# Altium schematic symbol library FPGA.SchLib: 10 symbols (part 1 of 2)
Pins are listed as number, name and electrical type; pins without a type are passive.

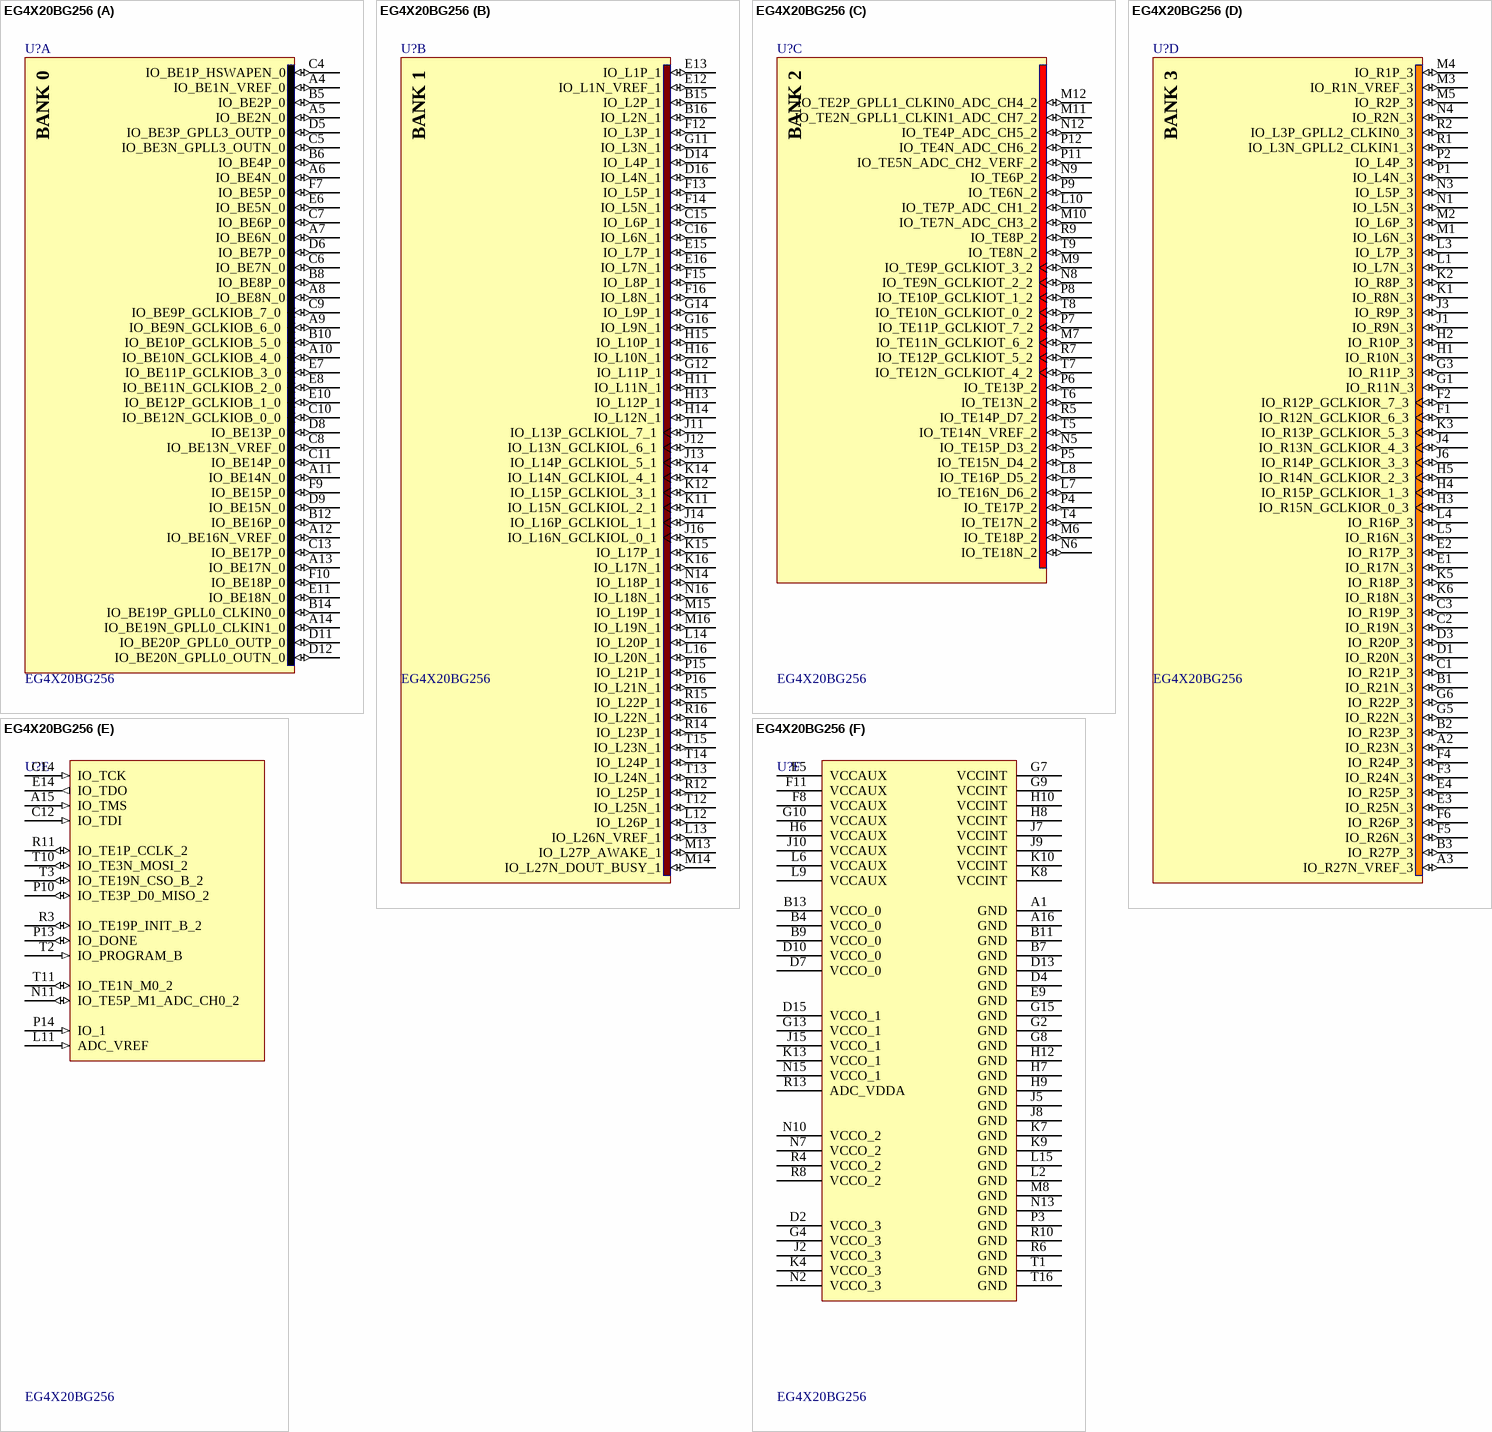
[diagram p0: symbol EG4X20BG256]

## EG4X20BG256
designator U?
Anlogic FPGA, 184 I/O Pins, 4 PLLs, 256-Pin FBGA
footprint BGA_17x17mm_P1.0mm_256P (BGA, 100-Leads, Body 17.00x17.00mmx1.40mm, Pitch 1.00mm)
part A pins: A4 IO_BE1N_VREF_0 (io), A5 IO_BE2N_0 (io), A6 IO_BE4N_0 (io), A7 IO_BE6N_0 (io), A8 IO_BE8N_0 (io), A9 IO_BE9N_GCLKIOB_6_0 (io), A10 IO_BE10N_GCLKIOB_4_0 (io), A11 IO_BE14N_0 (io), A12 IO_BE16N_VREF_0 (io), A13 IO_BE17N_0 (io), A14 IO_BE19N_GPLL0_CLKIN1_0 (io), B5 IO_BE2P_0 (io), B6 IO_BE4P_0 (io), B8 IO_BE8P_0 (io), B10 IO_BE10P_GCLKIOB_5_0 (io), B12 IO_BE16P_0 (io), B14 IO_BE19P_GPLL0_CLKIN0_0 (io), C4 IO_BE1P_HSWAPEN_0 (io), C5 IO_BE3N_GPLL3_OUTN_0 (io), C6 IO_BE7N_0 (io), C7 IO_BE6P_0 (io), C8 IO_BE13N_VREF_0 (io), C9 IO_BE9P_GCLKIOB_7_0 (io), C10 IO_BE12N_GCLKIOB_0_0 (io), C11 IO_BE14P_0 (io), C13 IO_BE17P_0 (io), D5 IO_BE3P_GPLL3_OUTP_0 (io), D6 IO_BE7P_0 (io), D8 IO_BE13P_0 (io), D9 IO_BE15N_0 (io), D11 IO_BE20P_GPLL0_OUTP_0 (io), D12 IO_BE20N_GPLL0_OUTN_0 (io), E6 IO_BE5N_0 (io), E7 IO_BE11P_GCLKIOB_3_0 (io), E8 IO_BE11N_GCLKIOB_2_0 (io), E10 IO_BE12P_GCLKIOB_1_0 (io), E11 IO_BE18N_0 (io), F7 IO_BE5P_0 (io), F9 IO_BE15P_0 (io), F10 IO_BE18P_0 (io)
part B pins: B15 IO_L2P_1 (io), B16 IO_L2N_1 (io), C15 IO_L6P_1 (io), C16 IO_L6N_1 (io), D14 IO_L4P_1 (io), D16 IO_L4N_1 (io), E12 IO_L1N_VREF_1 (io), E13 IO_L1P_1 (io), E15 IO_L7P_1 (io), E16 IO_L7N_1 (io), F12 IO_L3P_1 (io), F13 IO_L5P_1 (io), F14 IO_L5N_1 (io), F15 IO_L8P_1 (io), F16 IO_L8N_1 (io), G11 IO_L3N_1 (io), G12 IO_L11P_1 (io), G14 IO_L9P_1 (io), G16 IO_L9N_1 (io), H11 IO_L11N_1 (io), H13 IO_L12P_1 (io), H14 IO_L12N_1 (io), H15 IO_L10P_1 (io), H16 IO_L10N_1 (io), J11 IO_L13P_GCLKIOL_7_1 (io), J12 IO_L13N_GCLKIOL_6_1 (io), J13 IO_L14P_GCLKIOL_5_1 (io), J14 IO_L16P_GCLKIOL_1_1 (io), J16 IO_L16N_GCLKIOL_0_1 (io), K11 IO_L15N_GCLKIOL_2_1 (io), K12 IO_L15P_GCLKIOL_3_1 (io), K14 IO_L14N_GCLKIOL_4_1 (io), K15 IO_L17P_1 (io), K16 IO_L17N_1 (io), L12 IO_L26P_1 (io), L13 IO_L26N_VREF_1 (io), L14 IO_L20P_1 (io), L16 IO_L20N_1 (io), M13 IO_L27P_AWAKE_1 (io), M14 IO_L27N_DOUT_BUSY_1 (io), M15 IO_L19P_1 (io), M16 IO_L19N_1 (io), N14 IO_L18P_1 (io), N16 IO_L18N_1 (io), P15 IO_L21P_1 (io), P16 IO_L21N_1 (io), R12 IO_L25P_1 (io), R14 IO_L23P_1 (io), R15 IO_L22P_1 (io), R16 IO_L22N_1 (io), T12 IO_L25N_1 (io), T13 IO_L24N_1 (io), T14 IO_L24P_1 (io), T15 IO_L23N_1 (io)
part C pins: L7 IO_TE16N_D6_2 (io), L8 IO_TE16P_D5_2 (io), L10 IO_TE7P_ADC_CH1_2 (io), M6 IO_TE18P_2 (io), M7 IO_TE11N_GCLKIOT_6_2 (io), M9 IO_TE9P_GCLKIOT_3_2 (io), M10 IO_TE7N_ADC_CH3_2 (io), M11 IO_TE2N_GPLL1_CLKIN1_ADC_CH7_2 (io), M12 IO_TE2P_GPLL1_CLKIN0_ADC_CH4_2 (io), N5 IO_TE15P_D3_2 (io), N6 IO_TE18N_2 (io), N8 IO_TE9N_GCLKIOT_2_2 (io), N9 IO_TE6P_2 (io), N12 IO_TE4P_ADC_CH5_2 (io), P4 IO_TE17P_2 (io), P5 IO_TE15N_D4_2 (io), P6 IO_TE13P_2 (io), P7 IO_TE11P_GCLKIOT_7_2 (io), P8 IO_TE10P_GCLKIOT_1_2 (io), P9 IO_TE6N_2 (io), P11 IO_TE5N_ADC_CH2_VERF_2 (io), P12 IO_TE4N_ADC_CH6_2 (io), R5 IO_TE14P_D7_2 (io), R7 IO_TE12P_GCLKIOT_5_2 (io), R9 IO_TE8P_2 (io), T4 IO_TE17N_2 (io), T5 IO_TE14N_VREF_2 (io), T6 IO_TE13N_2 (io), T7 IO_TE12N_GCLKIOT_4_2 (io), T8 IO_TE10N_GCLKIOT_0_2 (io), T9 IO_TE8N_2 (io)
part D pins: A2 IO_R23N_3 (io), A3 IO_R27N_VREF_3 (io), B1 IO_R21N_3 (io), B2 IO_R23P_3 (io), B3 IO_R27P_3 (io), C1 IO_R21P_3 (io), C2 IO_R19N_3 (io), C3 IO_R19P_3 (io), D1 IO_R20N_3 (io), D3 IO_R20P_3 (io), E1 IO_R17N_3 (io), E2 IO_R17P_3 (io), E3 IO_R25N_3 (io), E4 IO_R25P_3 (io), F1 IO_R12N_GCLKIOR_6_3 (io), F2 IO_R12P_GCLKIOR_7_3 (io), F3 IO_R24N_3 (io), F4 IO_R24P_3 (io), F5 IO_R26N_3 (io), F6 IO_R26P_3 (io), G1 IO_R11N_3 (io), G3 IO_R11P_3 (io), G5 IO_R22N_3 (io), G6 IO_R22P_3 (io), H1 IO_R10N_3 (io), H2 IO_R10P_3 (io), H3 IO_R15N_GCLKIOR_0_3 (io), H4 IO_R15P_GCLKIOR_1_3 (io), H5 IO_R14N_GCLKIOR_2_3 (io), J1 IO_R9N_3 (io), J3 IO_R9P_3 (io), J4 IO_R13N_GCLKIOR_4_3 (io), J6 IO_R14P_GCLKIOR_3_3 (io), K1 IO_R8N_3 (io), K2 IO_R8P_3 (io), K3 IO_R13P_GCLKIOR_5_3 (io), K5 IO_R18P_3 (io), K6 IO_R18N_3 (io), L1 IO_L7N_3 (io), L3 IO_L7P_3 (io), L4 IO_R16P_3 (io), L5 IO_R16N_3 (io), M1 IO_L6N_3 (io), M2 IO_L6P_3 (io), M3 IO_R1N_VREF_3 (io), M4 IO_R1P_3 (io), M5 IO_R2P_3 (io), N1 IO_L5N_3 (io), N3 IO_L5P_3 (io), N4 IO_R2N_3 (io), P1 IO_L4N_3 (io), P2 IO_L4P_3 (io), R1 IO_L3N_GPLL2_CLKIN1_3 (io), R2 IO_L3P_GPLL2_CLKIN0_3 (io)
part E pins: A15 IO_TMS (in), C12 IO_TDI (in), C14 IO_TCK (in), E14 IO_TDO (out), L11 ADC_VREF (in), N11 IO_TE5P_M1_ADC_CH0_2 (io), P10 IO_TE3P_D0_MISO_2 (io), P13 IO_DONE (io), P14 IO_1 (in), R3 IO_TE19P_INIT_B_2 (io), R11 IO_TE1P_CCLK_2 (io), T2 IO_PROGRAM_B (in), T3 IO_TE19N_CSO_B_2 (io), T10 IO_TE3N_MOSI_2 (io), T11 IO_TE1N_M0_2 (io)
part F pins: A1 GND (power), A16 GND (power), B4 VCCO_0 (power), B7 GND (power), B9 VCCO_0 (power), B11 GND (power), B13 VCCO_0 (power), D2 VCCO_3 (power), D4 GND (power), D7 VCCO_0 (power), D10 VCCO_0 (power), D13 GND (power), D15 VCCO_1 (power), E5 VCCAUX (power), E9 GND (power), F8 VCCAUX (power), F11 VCCAUX (power), G2 GND (power), G4 VCCO_3 (power), G7 VCCINT (power), G8 GND (power), G9 VCCINT (power), G10 VCCAUX (power), G13 VCCO_1 (power), G15 GND (power), H6 VCCAUX (power), H7 GND (power), H8 VCCINT (power), H9 GND (power), H10 VCCINT (power), H12 GND (power), J2 VCCO_3 (power), J5 GND (power), J7 VCCINT (power), J8 GND (power), J9 VCCINT (power), J10 VCCAUX (power), J15 VCCO_1 (power), K4 VCCO_3 (power), K7 GND (power), K8 VCCINT (power), K9 GND (power), K10 VCCINT (power), K13 VCCO_1 (power), L2 GND (power), L6 VCCAUX (power), L9 VCCAUX (power), L15 GND (power), M8 GND (power), N2 VCCO_3 (power), N7 VCCO_2 (power), N10 VCCO_2 (power), N13 GND (power), N15 VCCO_1 (power), P3 GND (power), R4 VCCO_2 (power), R6 GND (power), R8 VCCO_2 (power), R10 GND (power), R13 ADC_VDDA (power), T1 GND (power), T16 GND (power)
part A text: BANK 0
part B text: BANK 1
part C text: BANK 2
part D text: BANK 3

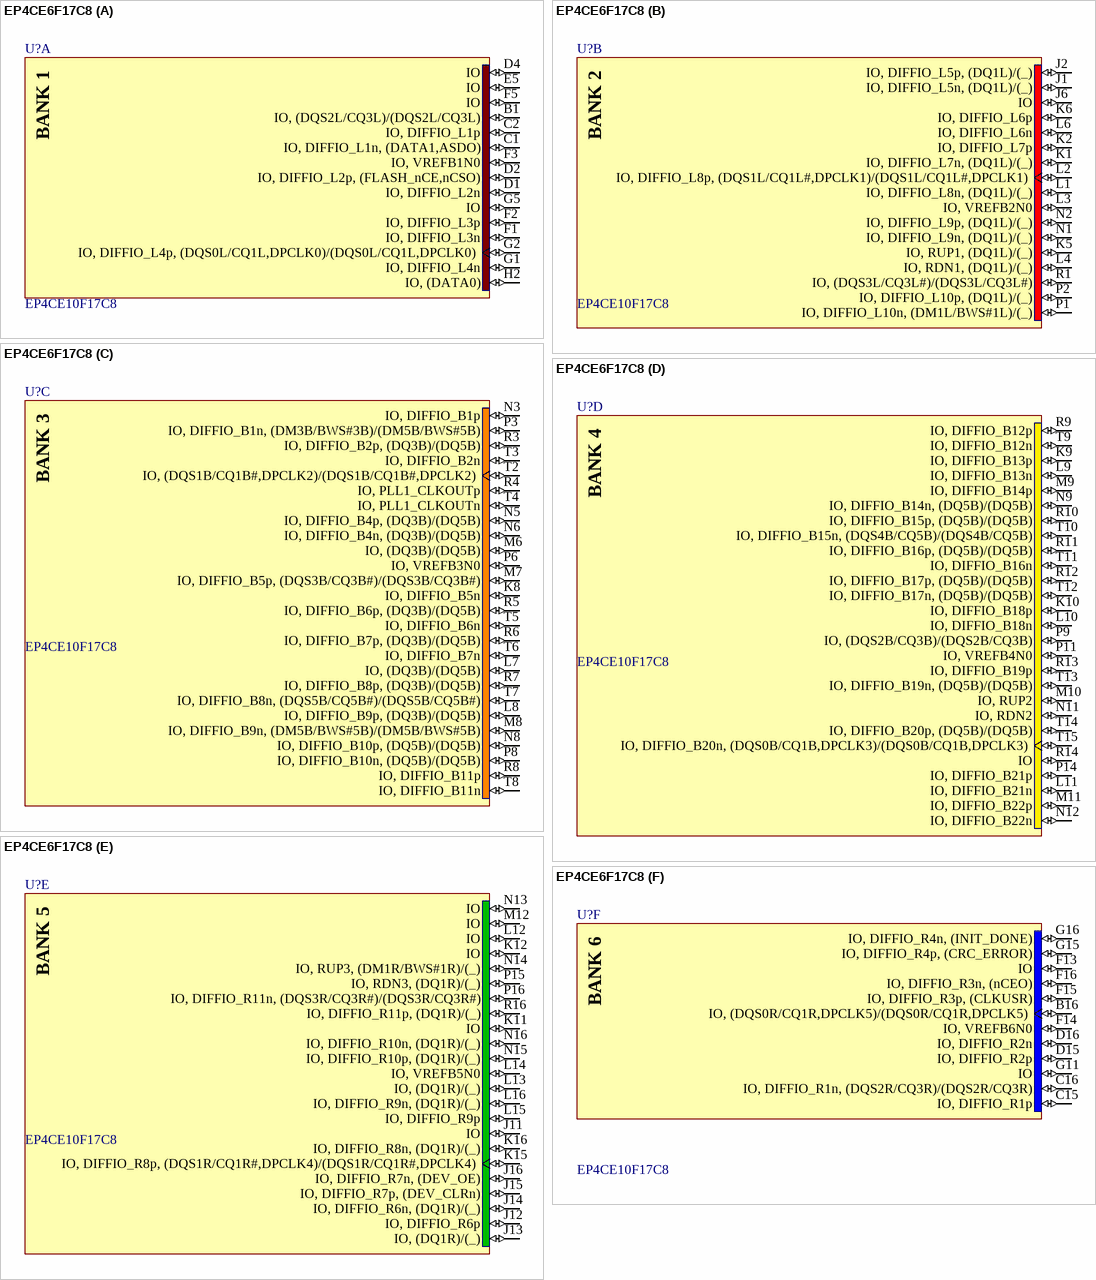
[diagram p1: symbol EP4CE6F17C8]

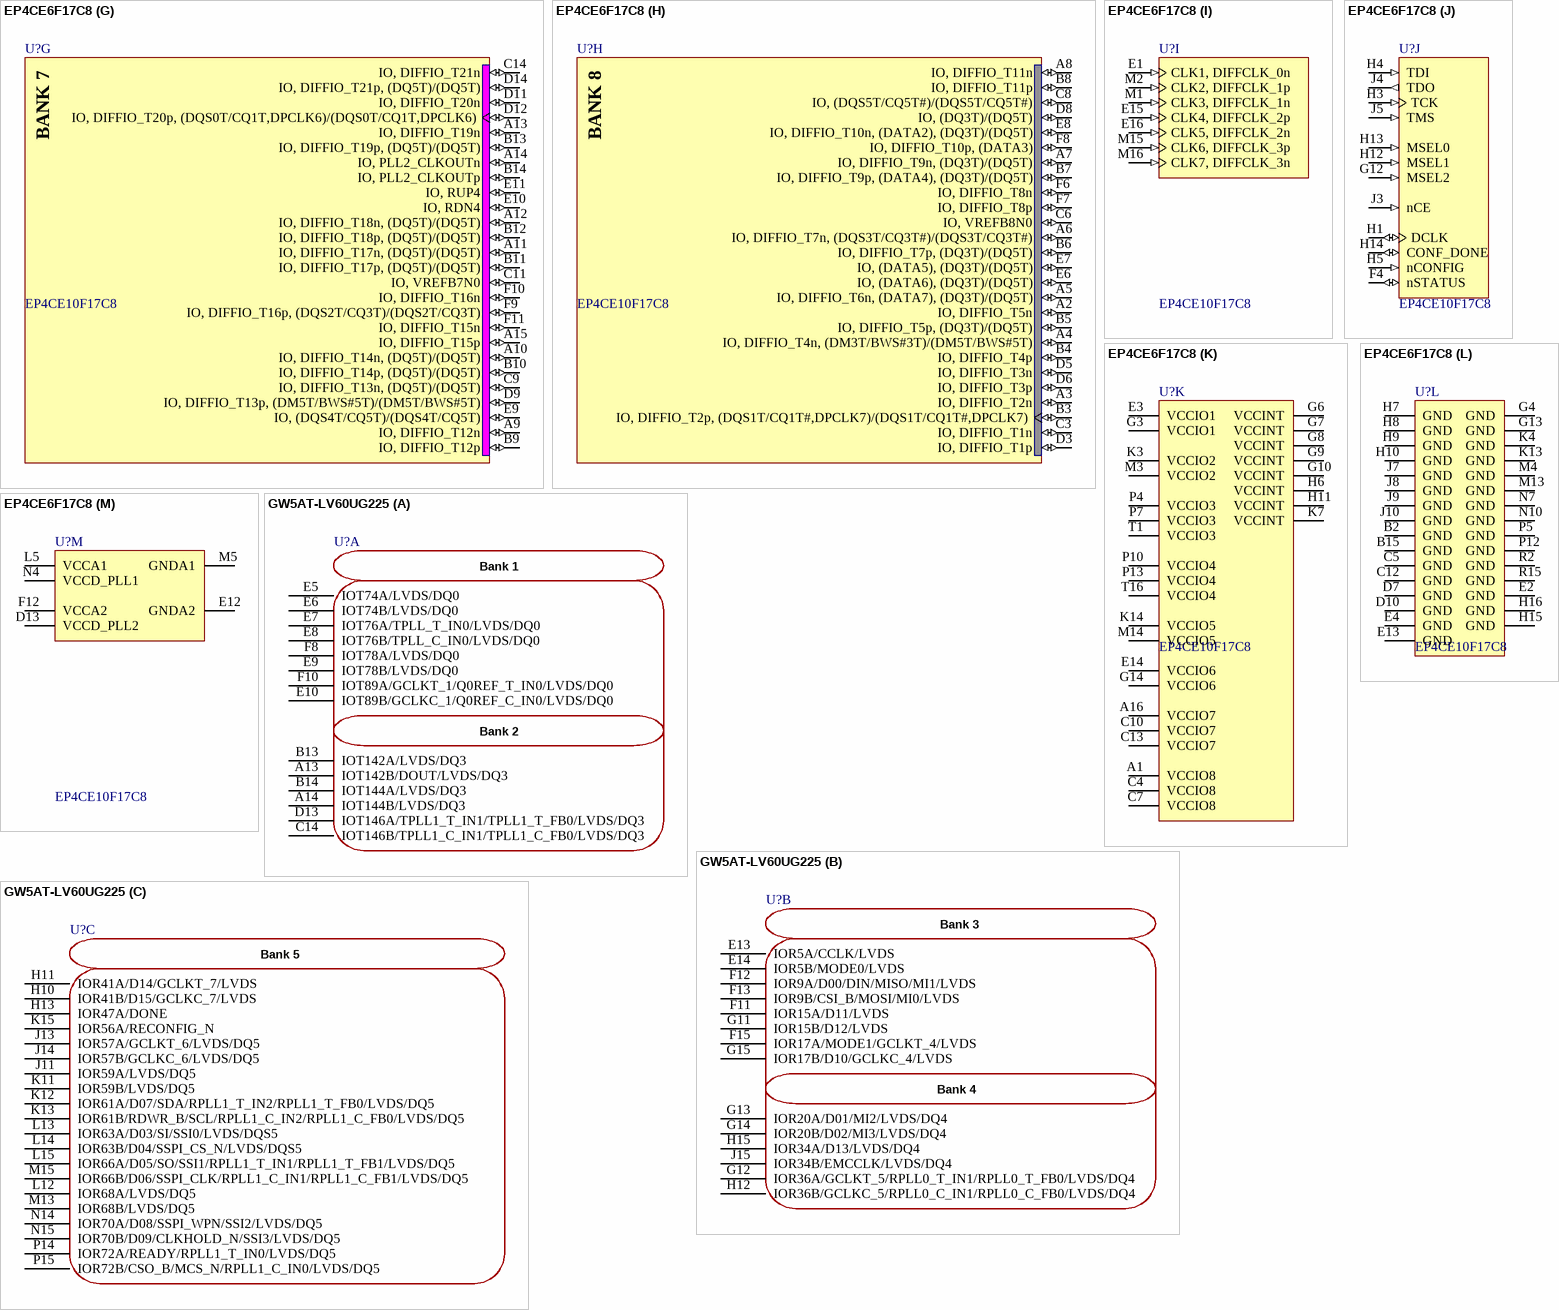
[diagram p2: symbols EP4CE6F17C8 to GW5AT-LV60UG225]

## EP4CE6F17C8
designator U?, comment EP4CE10F17C8
Cyclone IV Family FPGA, 2V Core, 179 I/O Pins, 2 PLLs, 256-Pin FBGA, Speed Grade 8, Commercial Grade; Published: 3-May-2010; DatasheetVersion: ver1.2, Mar-2010; PackageVersion: ver16.0, Dec-2009; PackageReference: FBGA256; Publisher: Altium Limited; PackageDescription: 256-Ball FineLine Ball Grid Array (FBGA256) - Option 1 - Wire Bond; Supplier 1: Digi-Key; Supplier Part Number 1: EP4CE6F17C8-ND; Code_JEDEC: MS-034-AAF-1; Code_IPC: BGA100P16X16-256; ComponentLink1Description: Manufacturer Link; ComponentLink1URL: http://www.altera.com/; ComponentLink2Description: Handbook; ComponentLink2URL: http://www.altera.com/literature/hb/cyclone-iv/cyclone4-handbook.pdf; ComponentLink3Description: Pinout Specification; ComponentLink3URL: http://www.altera.com/literature/lit-dp.jsp?category=cyc%204&showspreadsheet=y; ComponentLink4Description: Packaging Specification; ComponentLink4URL: http://www.altera.com/literature/ds/dspkg.pdf
footprint FBGA256
part A pins: B1 IO, (DQS2L/CQ3L)/(DQS2L/CQ3L) (io), C1 IO, DIFFIO_L1n, (DATA1,ASDO) (io), C2 IO, DIFFIO_L1p (io), D1 IO, DIFFIO_L2n (io), D2 IO, DIFFIO_L2p, (FLASH_nCE,nCSO) (io), D4 IO (io), E5 IO (io), F1 IO, DIFFIO_L3n (io), F2 IO, DIFFIO_L3p (io), F3 IO, VREFB1N0 (io), F5 IO (io), G1 IO, DIFFIO_L4n (io), G2 IO, DIFFIO_L4p, (DQS0L/CQ1L,DPCLK0)/(DQS0L/CQ1L,DPCLK0) (io), G5 IO (io), H2 IO, (DATA0) (io)
part B pins: J1 IO, DIFFIO_L5n, (DQ1L)/(_) (io), J2 IO, DIFFIO_L5p, (DQ1L)/(_) (io), J6 IO (io), K1 IO, DIFFIO_L7n, (DQ1L)/(_) (io), K2 IO, DIFFIO_L7p (io), K5 IO, RUP1, (DQ1L)/(_) (io), K6 IO, DIFFIO_L6p (io), L1 IO, DIFFIO_L8n, (DQ1L)/(_) (io), L2 IO, DIFFIO_L8p, (DQS1L/CQ1L#,DPCLK1)/(DQS1L/CQ1L#,DPCLK1) (io), L3 IO, VREFB2N0 (io), L4 IO, RDN1, (DQ1L)/(_) (io), L6 IO, DIFFIO_L6n (io), N1 IO, DIFFIO_L9n, (DQ1L)/(_) (io), N2 IO, DIFFIO_L9p, (DQ1L)/(_) (io), P1 IO, DIFFIO_L10n, (DM1L/BWS#1L)/(_) (io), P2 IO, DIFFIO_L10p, (DQ1L)/(_) (io), R1 IO, (DQS3L/CQ3L#)/(DQS3L/CQ3L#) (io)
part C pins: K8 IO, DIFFIO_B5n (io), L7 IO, (DQ3B)/(DQ5B) (io), L8 IO, DIFFIO_B9p, (DQ3B)/(DQ5B) (io), M6 IO, (DQ3B)/(DQ5B) (io), M7 IO, DIFFIO_B5p, (DQS3B/CQ3B#)/(DQS3B/CQ3B#) (io), M8 IO, DIFFIO_B9n, (DM5B/BWS#5B)/(DM5B/BWS#5B) (io), N3 IO, DIFFIO_B1p (io), N5 IO, DIFFIO_B4p, (DQ3B)/(DQ5B) (io), N6 IO, DIFFIO_B4n, (DQ3B)/(DQ5B) (io), N8 IO, DIFFIO_B10p, (DQ5B)/(DQ5B) (io), P3 IO, DIFFIO_B1n, (DM3B/BWS#3B)/(DM5B/BWS#5B) (io), P6 IO, VREFB3N0 (io), P8 IO, DIFFIO_B10n, (DQ5B)/(DQ5B) (io), R3 IO, DIFFIO_B2p, (DQ3B)/(DQ5B) (io), R4 IO, PLL1_CLKOUTp (io), R5 IO, DIFFIO_B6p, (DQ3B)/(DQ5B) (io), R6 IO, DIFFIO_B7p, (DQ3B)/(DQ5B) (io), R7 IO, DIFFIO_B8p, (DQ3B)/(DQ5B) (io), R8 IO, DIFFIO_B11p (io), T2 IO, (DQS1B/CQ1B#,DPCLK2)/(DQS1B/CQ1B#,DPCLK2) (io), T3 IO, DIFFIO_B2n (io), T4 IO, PLL1_CLKOUTn (io), T5 IO, DIFFIO_B6n (io), T6 IO, DIFFIO_B7n (io), T7 IO, DIFFIO_B8n, (DQS5B/CQ5B#)/(DQS5B/CQ5B#) (io), T8 IO, DIFFIO_B11n (io)
part D pins: K9 IO, DIFFIO_B13p (io), K10 IO, DIFFIO_B18p (io), L9 IO, DIFFIO_B13n (io), L10 IO, DIFFIO_B18n (io), L11 IO, DIFFIO_B21n (io), M9 IO, DIFFIO_B14p (io), M10 IO, RUP2 (io), M11 IO, DIFFIO_B22p (io), N9 IO, DIFFIO_B14n, (DQ5B)/(DQ5B) (io), N11 IO, RDN2 (io), N12 IO, DIFFIO_B22n (io), P9 IO, (DQS2B/CQ3B)/(DQS2B/CQ3B) (io), P11 IO, VREFB4N0 (io), P14 IO, DIFFIO_B21p (io), R9 IO, DIFFIO_B12p (io), R10 IO, DIFFIO_B15p, (DQ5B)/(DQ5B) (io), R11 IO, DIFFIO_B16p, (DQ5B)/(DQ5B) (io), R12 IO, DIFFIO_B17p, (DQ5B)/(DQ5B) (io), R13 IO, DIFFIO_B19p (io), R14 IO (io), T9 IO, DIFFIO_B12n (io), T10 IO, DIFFIO_B15n, (DQS4B/CQ5B)/(DQS4B/CQ5B) (io), T11 IO, DIFFIO_B16n (io), T12 IO, DIFFIO_B17n, (DQ5B)/(DQ5B) (io), T13 IO, DIFFIO_B19n, (DQ5B)/(DQ5B) (io), T14 IO, DIFFIO_B20p, (DQ5B)/(DQ5B) (io), T15 IO, DIFFIO_B20n, (DQS0B/CQ1B,DPCLK3)/(DQS0B/CQ1B,DPCLK3) (io)
part E pins: J11 IO (io), J12 IO, DIFFIO_R6p (io), J13 IO, (DQ1R)/(_) (io), J14 IO, DIFFIO_R6n, (DQ1R)/(_) (io), J15 IO, DIFFIO_R7p, (DEV_CLRn) (io), J16 IO, DIFFIO_R7n, (DEV_OE) (io), K11 IO (io), K12 IO (io), K15 IO, DIFFIO_R8p, (DQS1R/CQ1R#,DPCLK4)/(DQS1R/CQ1R#,DPCLK4) (io), K16 IO, DIFFIO_R8n, (DQ1R)/(_) (io), L12 IO (io), L13 IO, (DQ1R)/(_) (io), L14 IO, VREFB5N0 (io), L15 IO, DIFFIO_R9p (io), L16 IO, DIFFIO_R9n, (DQ1R)/(_) (io), M12 IO (io), N13 IO (io), N14 IO, RUP3, (DM1R/BWS#1R)/(_) (io), N15 IO, DIFFIO_R10p, (DQ1R)/(_) (io), N16 IO, DIFFIO_R10n, (DQ1R)/(_) (io), P15 IO, RDN3, (DQ1R)/(_) (io), P16 IO, DIFFIO_R11n, (DQS3R/CQ3R#)/(DQS3R/CQ3R#) (io), R16 IO, DIFFIO_R11p, (DQ1R)/(_) (io)
part F pins: B16 IO, (DQS0R/CQ1R,DPCLK5)/(DQS0R/CQ1R,DPCLK5) (io), C15 IO, DIFFIO_R1p (io), C16 IO, DIFFIO_R1n, (DQS2R/CQ3R)/(DQS2R/CQ3R) (io), D15 IO, DIFFIO_R2p (io), D16 IO, DIFFIO_R2n (io), F13 IO (io), F14 IO, VREFB6N0 (io), F15 IO, DIFFIO_R3p, (CLKUSR) (io), F16 IO, DIFFIO_R3n, (nCEO) (io), G11 IO (io), G15 IO, DIFFIO_R4p, (CRC_ERROR) (io), G16 IO, DIFFIO_R4n, (INIT_DONE) (io)
part G pins: A9 IO, DIFFIO_T12n (io), A10 IO, DIFFIO_T14n, (DQ5T)/(DQ5T) (io), A11 IO, DIFFIO_T17n, (DQ5T)/(DQ5T) (io), A12 IO, DIFFIO_T18n, (DQ5T)/(DQ5T) (io), A13 IO, DIFFIO_T19n (io), A14 IO, PLL2_CLKOUTn (io), A15 IO, DIFFIO_T15p (io), B9 IO, DIFFIO_T12p (io), B10 IO, DIFFIO_T14p, (DQ5T)/(DQ5T) (io), B11 IO, DIFFIO_T17p, (DQ5T)/(DQ5T) (io), B12 IO, DIFFIO_T18p, (DQ5T)/(DQ5T) (io), B13 IO, DIFFIO_T19p, (DQ5T)/(DQ5T) (io), B14 IO, PLL2_CLKOUTp (io), C9 IO, DIFFIO_T13n, (DQ5T)/(DQ5T) (io), C11 IO, VREFB7N0 (io), C14 IO, DIFFIO_T21n (io), D9 IO, DIFFIO_T13p, (DM5T/BWS#5T)/(DM5T/BWS#5T) (io), D11 IO, DIFFIO_T20n (io), D12 IO, DIFFIO_T20p, (DQS0T/CQ1T,DPCLK6)/(DQS0T/CQ1T,DPCLK6) (io), D14 IO, DIFFIO_T21p, (DQ5T)/(DQ5T) (io), E9 IO, (DQS4T/CQ5T)/(DQS4T/CQ5T) (io), E10 IO, RDN4 (io), E11 IO, RUP4 (io), F9 IO, DIFFIO_T16p, (DQS2T/CQ3T)/(DQS2T/CQ3T) (io), F10 IO, DIFFIO_T16n (io), F11 IO, DIFFIO_T15n (io)
part H pins: A2 IO, DIFFIO_T5n (io), A3 IO, DIFFIO_T2n (io), A4 IO, DIFFIO_T4n, (DM3T/BWS#3T)/(DM5T/BWS#5T) (io), A5 IO, DIFFIO_T6n, (DATA7), (DQ3T)/(DQ5T) (io), A6 IO, DIFFIO_T7n, (DQS3T/CQ3T#)/(DQS3T/CQ3T#) (io), A7 IO, DIFFIO_T9n, (DQ3T)/(DQ5T) (io), A8 IO, DIFFIO_T11n (io), B3 IO, DIFFIO_T2p, (DQS1T/CQ1T#,DPCLK7)/(DQS1T/CQ1T#,DPCLK7) (io), B4 IO, DIFFIO_T4p (io), B5 IO, DIFFIO_T5p, (DQ3T)/(DQ5T) (io), B6 IO, DIFFIO_T7p, (DQ3T)/(DQ5T) (io), B7 IO, DIFFIO_T9p, (DATA4), (DQ3T)/(DQ5T) (io), B8 IO, DIFFIO_T11p (io), C3 IO, DIFFIO_T1n (io), C6 IO, VREFB8N0 (io), C8 IO, (DQS5T/CQ5T#)/(DQS5T/CQ5T#) (io), D3 IO, DIFFIO_T1p (io), D5 IO, DIFFIO_T3n (io), D6 IO, DIFFIO_T3p (io), D8 IO, (DQ3T)/(DQ5T) (io), E6 IO, (DATA6), (DQ3T)/(DQ5T) (io), E7 IO, (DATA5), (DQ3T)/(DQ5T) (io), E8 IO, DIFFIO_T10n, (DATA2), (DQ3T)/(DQ5T) (io), F6 IO, DIFFIO_T8n (io), F7 IO, DIFFIO_T8p (io), F8 IO, DIFFIO_T10p, (DATA3) (io)
part I pins: E1 CLK1, DIFFCLK_0n (in), E15 CLK4, DIFFCLK_2p (in), E16 CLK5, DIFFCLK_2n (in), M1 CLK3, DIFFCLK_1n (in), M2 CLK2, DIFFCLK_1p (in), M15 CLK6, DIFFCLK_3p (in), M16 CLK7, DIFFCLK_3n (in)
part J pins: F4 nSTATUS (io), G12 MSEL2 (in), H1 DCLK (io), H3 TCK (in), H4 TDI (in), H5 nCONFIG (in), H12 MSEL1 (in), H13 MSEL0 (in), H14 CONF_DONE (io), J3 nCE (in), J4 TDO (out), J5 TMS (in)
part K pins: A1 VCCIO8 (power), A16 VCCIO7 (power), C4 VCCIO8 (power), C7 VCCIO8 (power), C10 VCCIO7 (power), C13 VCCIO7 (power), E3 VCCIO1 (power), E14 VCCIO6 (power), G3 VCCIO1 (power), G6 VCCINT (power), G7 VCCINT (power), G8 VCCINT (power), G9 VCCINT (power), G10 VCCINT (power), G14 VCCIO6 (power), H6 VCCINT (power), H11 VCCINT (power), K3 VCCIO2 (power), K7 VCCINT (power), K14 VCCIO5 (power), M3 VCCIO2 (power), M14 VCCIO5 (power), P4 VCCIO3 (power), P7 VCCIO3 (power), P10 VCCIO4 (power), P13 VCCIO4 (power), T1 VCCIO3 (power), T16 VCCIO4 (power)
part L pins: B2 GND (power), B15 GND (power), C5 GND (power), C12 GND (power), D7 GND (power), D10 GND (power), E2 GND (power), E4 GND (power), E13 GND (power), G4 GND (power), G13 GND (power), H7 GND (power), H8 GND (power), H9 GND (power), H10 GND (power), H15 GND (power), H16 GND (power), J7 GND (power), J8 GND (power), J9 GND (power), J10 GND (power), K4 GND (power), K13 GND (power), M4 GND (power), M13 GND (power), N7 GND (power), N10 GND (power), P5 GND (power), P12 GND (power), R2 GND (power), R15 GND (power)
part M pins: D13 VCCD_PLL2 (power), E12 GNDA2 (power), F12 VCCA2 (power), L5 VCCA1 (power), M5 GNDA1 (power), N4 VCCD_PLL1 (power)
part A text: BANK 1
part B text: BANK 2
part C text: BANK 3
part D text: BANK 4
part E text: BANK 5
part F text: BANK 6
part G text: BANK 7
part H text: BANK 8

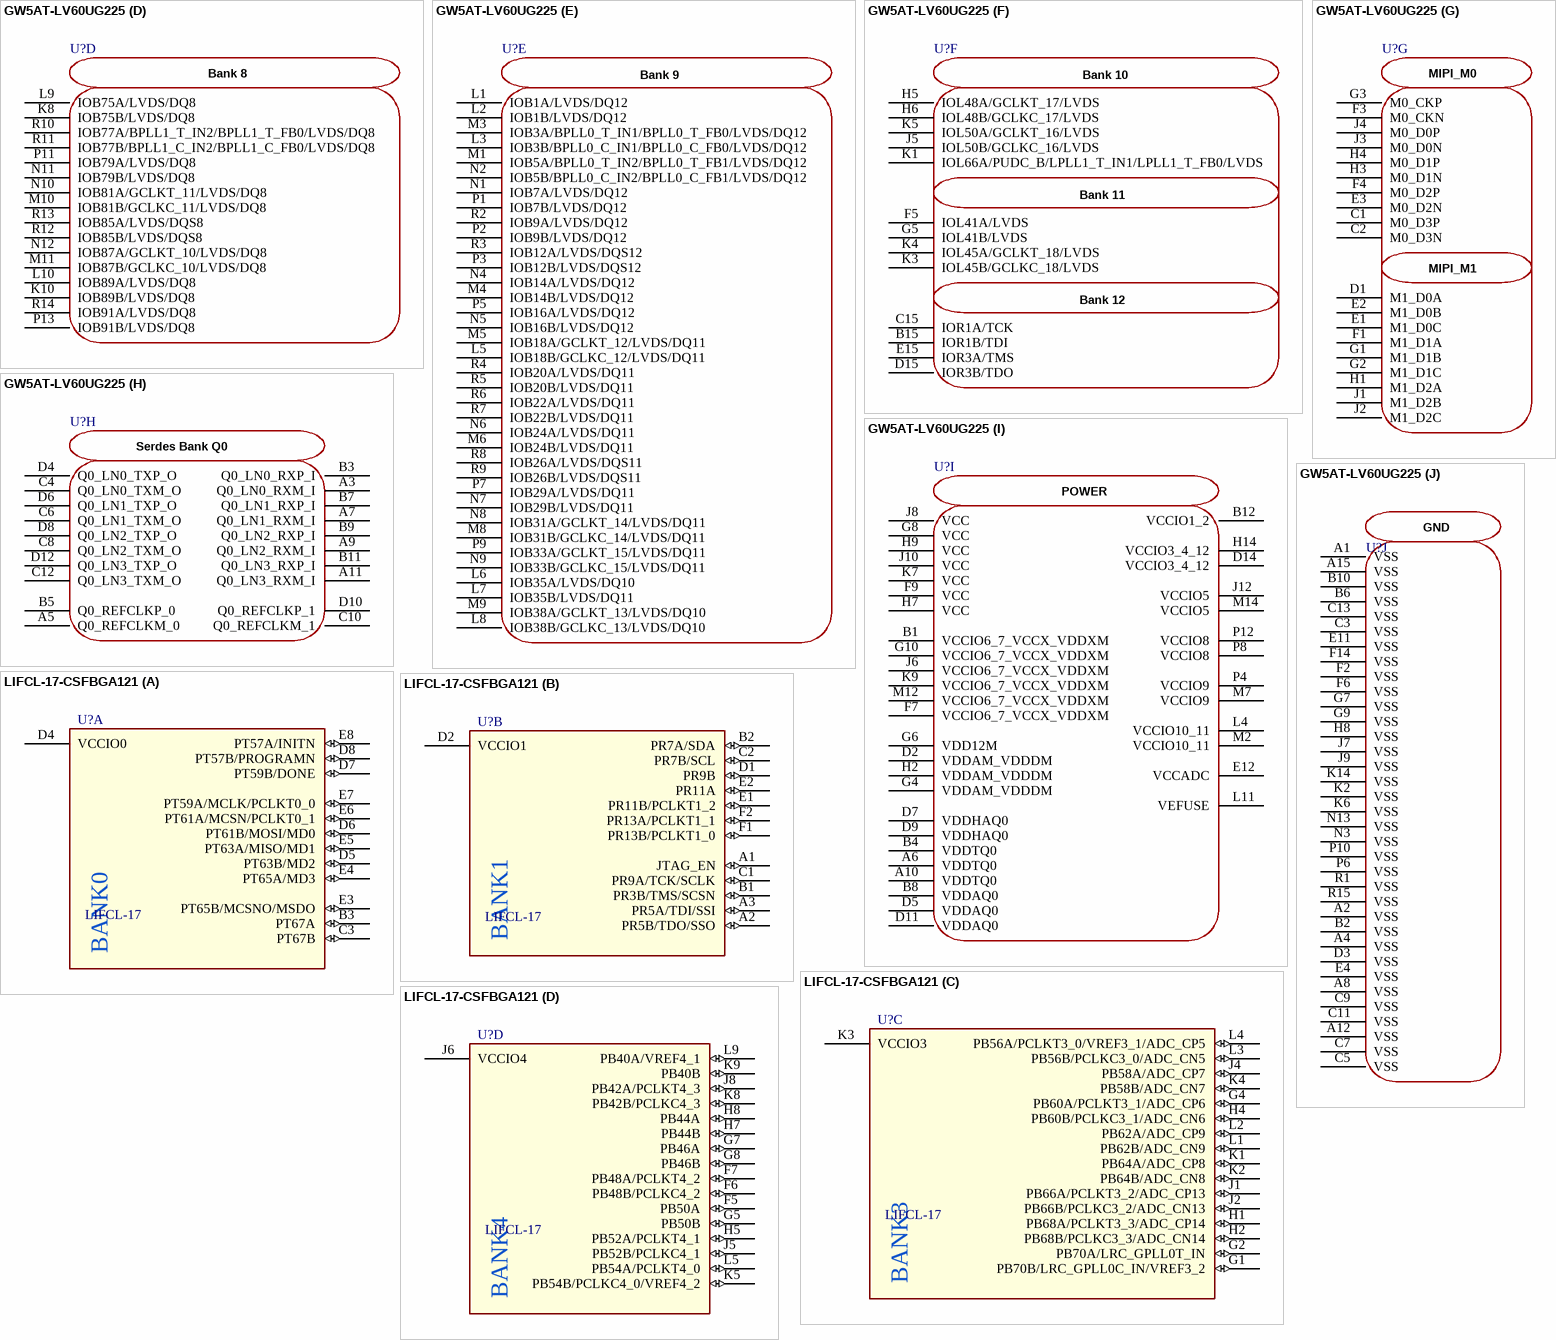
[diagram p3: symbols GW5AT-LV60UG225 to LIFCL-17-CSFBGA121]

## GW5AT-LV60UG225
designator U?  (value not drawn)
footprint UG225_13x13mm (BGA, 225-Leads, Body 13.00x13.00mmx1.36mm, Pitch 0.80mm)
part A pins: A13 IOT142B/DOUT/LVDS/DQ3, A14 IOT144B/LVDS/DQ3, B13 IOT142A/LVDS/DQ3, B14 IOT144A/LVDS/DQ3, C14 IOT146B/TPLL1_C_IN1/TPLL1_C_FB0/LVDS/DQ3, D13 IOT146A/TPLL1_T_IN1/TPLL1_T_FB0/LVDS/DQ3, E5 IOT74A/LVDS/DQ0, E6 IOT74B/LVDS/DQ0, E7 IOT76A/TPLL_T_IN0/LVDS/DQ0, E8 IOT76B/TPLL_C_IN0/LVDS/DQ0, E9 IOT78B/LVDS/DQ0, E10 IOT89B/GCLKC_1/Q0REF_C_IN0/LVDS/DQ0, F8 IOT78A/LVDS/DQ0, F10 IOT89A/GCLKT_1/Q0REF_T_IN0/LVDS/DQ0
part B pins: E13 IOR5A/CCLK/LVDS, E14 IOR5B/MODE0/LVDS, F11 IOR15A/D11/LVDS, F12 IOR9A/D00/DIN/MISO/MI1/LVDS, F13 IOR9B/CSI_B/MOSI/MI0/LVDS, F15 IOR17A/MODE1/GCLKT_4/LVDS, G11 IOR15B/D12/LVDS, G12 IOR36A/GCLKT_5/RPLL0_T_IN1/RPLL0_T_FB0/LVDS/DQ4, G13 IOR20A/D01/MI2/LVDS/DQ4, G14 IOR20B/D02/MI3/LVDS/DQ4, G15 IOR17B/D10/GCLKC_4/LVDS, H12 IOR36B/GCLKC_5/RPLL0_C_IN1/RPLL0_C_FB0/LVDS/DQ4, H15 IOR34A/D13/LVDS/DQ4, J15 IOR34B/EMCCLK/LVDS/DQ4
part C pins: H10 IOR41B/D15/GCLKC_7/LVDS, H11 IOR41A/D14/GCLKT_7/LVDS, H13 IOR47A/DONE, J11 IOR59A/LVDS/DQ5, J13 IOR57A/GCLKT_6/LVDS/DQ5, J14 IOR57B/GCLKC_6/LVDS/DQ5, K11 IOR59B/LVDS/DQ5, K12 IOR61A/D07/SDA/RPLL1_T_IN2/RPLL1_T_FB0/LVDS/DQ5, K13 IOR61B/RDWR_B/SCL/RPLL1_C_IN2/RPLL1_C_FB0/LVDS/DQ5, K15 IOR56A/RECONFIG_N, L12 IOR68A/LVDS/DQ5, L13 IOR63A/D03/SI/SSI0/LVDS/DQS5, L14 IOR63B/D04/SSPI_CS_N/LVDS/DQS5, L15 IOR66A/D05/SO/SSI1/RPLL1_T_IN1/RPLL1_T_FB1/LVDS/DQ5, M13 IOR68B/LVDS/DQ5, M15 IOR66B/D06/SSPI_CLK/RPLL1_C_IN1/RPLL1_C_FB1/LVDS/DQ5, N14 IOR70A/D08/SSPI_WPN/SSI2/LVDS/DQ5, N15 IOR70B/D09/CLKHOLD_N/SSI3/LVDS/DQ5, P14 IOR72A/READY/RPLL1_T_IN0/LVDS/DQ5, P15 IOR72B/CSO_B/MCS_N/RPLL1_C_IN0/LVDS/DQ5
part D pins: K8 IOB75B/LVDS/DQ8, K10 IOB89B/LVDS/DQ8, L9 IOB75A/LVDS/DQ8, L10 IOB89A/LVDS/DQ8, M10 IOB81B/GCLKC_11/LVDS/DQ8, M11 IOB87B/GCLKC_10/LVDS/DQ8, N10 IOB81A/GCLKT_11/LVDS/DQ8, N11 IOB79B/LVDS/DQ8, N12 IOB87A/GCLKT_10/LVDS/DQ8, P11 IOB79A/LVDS/DQ8, P13 IOB91B/LVDS/DQ8, R10 IOB77A/BPLL1_T_IN2/BPLL1_T_FB0/LVDS/DQ8, R11 IOB77B/BPLL1_C_IN2/BPLL1_C_FB0/LVDS/DQ8, R12 IOB85B/LVDS/DQS8, R13 IOB85A/LVDS/DQS8, R14 IOB91A/LVDS/DQ8
part E pins: L1 IOB1A/LVDS/DQ12, L2 IOB1B/LVDS/DQ12, L3 IOB3B/BPLL0_C_IN1/BPLL0_C_FB0/LVDS/DQ12, L5 IOB18B/GCLKC_12/LVDS/DQ11, L6 IOB35A/LVDS/DQ10, L7 IOB35B/LVDS/DQ11, L8 IOB38B/GCLKC_13/LVDS/DQ10, M1 IOB5A/BPLL0_T_IN2/BPLL0_T_FB1/LVDS/DQ12, M3 IOB3A/BPLL0_T_IN1/BPLL0_T_FB0/LVDS/DQ12, M4 IOB14B/LVDS/DQ12, M5 IOB18A/GCLKT_12/LVDS/DQ11, M6 IOB24B/LVDS/DQ11, M8 IOB31B/GCLKC_14/LVDS/DQ11, M9 IOB38A/GCLKT_13/LVDS/DQ10, N1 IOB7A/LVDS/DQ12, N2 IOB5B/BPLL0_C_IN2/BPLL0_C_FB1/LVDS/DQ12, N4 IOB14A/LVDS/DQ12, N5 IOB16B/LVDS/DQ12, N6 IOB24A/LVDS/DQ11, N7 IOB29B/LVDS/DQ11, N8 IOB31A/GCLKT_14/LVDS/DQ11, N9 IOB33B/GCLKC_15/LVDS/DQ11, P1 IOB7B/LVDS/DQ12, P2 IOB9B/LVDS/DQ12, P3 IOB12B/LVDS/DQS12, P5 IOB16A/LVDS/DQ12, P7 IOB29A/LVDS/DQ11, P9 IOB33A/GCLKT_15/LVDS/DQ11, R2 IOB9A/LVDS/DQ12, R3 IOB12A/LVDS/DQS12, R4 IOB20A/LVDS/DQ11, R5 IOB20B/LVDS/DQ11, R6 IOB22A/LVDS/DQ11, R7 IOB22B/LVDS/DQ11, R8 IOB26A/LVDS/DQS11, R9 IOB26B/LVDS/DQS11
part F pins: B15 IOR1B/TDI, C15 IOR1A/TCK, D15 IOR3B/TDO, E15 IOR3A/TMS, F5 IOL41A/LVDS, G5 IOL41B/LVDS, H5 IOL48A/GCLKT_17/LVDS, H6 IOL48B/GCLKC_17/LVDS, J5 IOL50B/GCLKC_16/LVDS, K1 IOL66A/PUDC_B/LPLL1_T_IN1/LPLL1_T_FB0/LVDS, K3 IOL45B/GCLKC_18/LVDS, K4 IOL45A/GCLKT_18/LVDS, K5 IOL50A/GCLKT_16/LVDS
part G pins: C1 M0_D3P, C2 M0_D3N, D1 M1_D0A, E1 M1_D0C, E2 M1_D0B, E3 M0_D2N, F1 M1_D1A, F3 M0_CKN, F4 M0_D2P, G1 M1_D1B, G2 M1_D1C, G3 M0_CKP, H1 M1_D2A, H3 M0_D1N, H4 M0_D1P, J1 M1_D2B, J2 M1_D2C, J3 M0_D0N, J4 M0_D0P
part H pins: A3 Q0_LN0_RXM_I, A5 Q0_REFCLKM_0, A7 Q0_LN1_RXM_I, A9 Q0_LN2_RXM_I, A11 Q0_LN3_RXM_I, B3 Q0_LN0_RXP_I, B5 Q0_REFCLKP_0, B7 Q0_LN1_RXP_I, B9 Q0_LN2_RXP_I, B11 Q0_LN3_RXP_I, C4 Q0_LN0_TXM_O, C6 Q0_LN1_TXM_O, C8 Q0_LN2_TXM_O, C10 Q0_REFCLKM_1, C12 Q0_LN3_TXM_O, D4 Q0_LN0_TXP_O, D6 Q0_LN1_TXP_O, D8 Q0_LN2_TXP_O, D10 Q0_REFCLKP_1, D12 Q0_LN3_TXP_O
part I pins: A6 VDDTQ0, A10 VDDTQ0, B1 VCCIO6_7_VCCX_VDDXM, B4 VDDTQ0, B8 VDDAQ0, B12 VCCIO1_2, D2 VDDAM_VDDDM, D5 VDDAQ0, D7 VDDHAQ0, D9 VDDHAQ0, D11 VDDAQ0, D14 VCCIO3_4_12, E12 VCCADC, F7 VCCIO6_7_VCCX_VDDXM, F9 VCC, G4 VDDAM_VDDDM, G6 VDD12M, G8 VCC, G10 VCCIO6_7_VCCX_VDDXM, H2 VDDAM_VDDDM, H7 VCC, H9 VCC, H14 VCCIO3_4_12, J6 VCCIO6_7_VCCX_VDDXM, J8 VCC, J10 VCC, J12 VCCIO5, K7 VCC, K9 VCCIO6_7_VCCX_VDDXM, L4 VCCIO10_11, L11 VEFUSE, M2 VCCIO10_11, M7 VCCIO9, M12 VCCIO6_7_VCCX_VDDXM, M14 VCCIO5, P4 VCCIO9, P8 VCCIO8, P12 VCCIO8
part J pins: A1 VSS, A2 VSS, A4 VSS, A8 VSS, A12 VSS, A15 VSS, B2 VSS, B6 VSS, B10 VSS, C3 VSS, C5 VSS, C7 VSS, C9 VSS, C11 VSS, C13 VSS, D3 VSS, E4 VSS, E11 VSS, F2 VSS, F6 VSS, F14 VSS, G7 VSS, G9 VSS, H8 VSS, J7 VSS, J9 VSS, K2 VSS, K6 VSS, K14 VSS, N3 VSS, N13 VSS, P6 VSS, P10 VSS, R1 VSS, R15 VSS
part A text: Bank 1; Bank 2
part B text: Bank 3; Bank 4
part C text: Bank 5
part D text: Bank 8
part E text: Bank 9
part F text: Bank 10; Bank 11; Bank 12
part G text: MIPI_M0; MIPI_M1
part H text: Serdes Bank Q0
part I text: POWER
part J text: GND

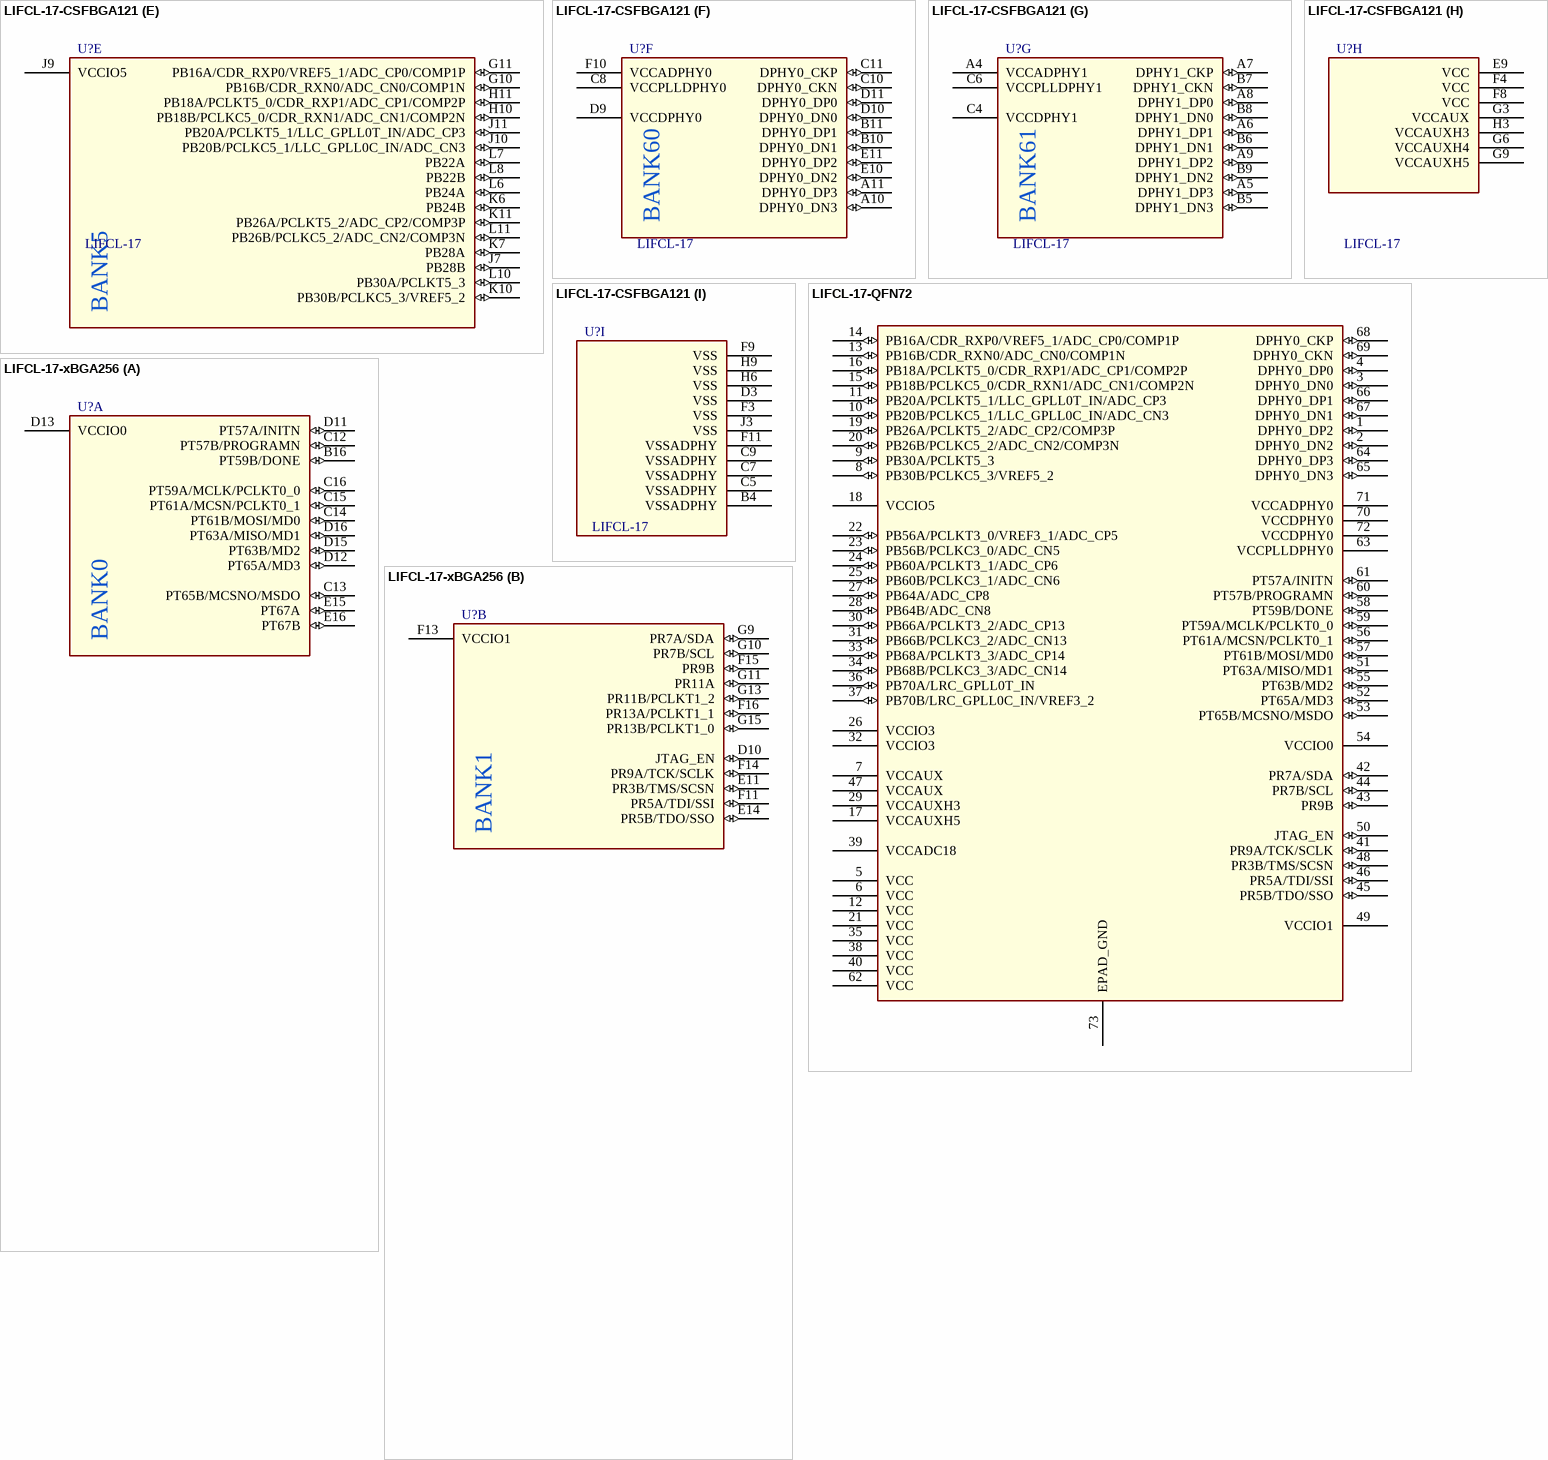
[diagram p4: symbols LIFCL-17-CSFBGA121 to LIFCL-17-xBGA256]

## LIFCL-17-CSFBGA121
designator U?, comment LIFCL-17
LIFCL-17-CSFBGA121
footprint CSFBGA-121_L6.0-W6.0-R11-C11-P0.50-TL
part A pins: B3 PT67A (io), C3 PT67B (io), D4 VCCIO0 (power), D5 PT63B/MD2 (io), D6 PT61B/MOSI/MD0 (io), D7 PT59B/DONE (io), D8 PT57B/PROGRAMN (io), E3 PT65B/MCSNO/MSDO (io), E4 PT65A/MD3 (io), E5 PT63A/MISO/MD1 (io), E6 PT61A/MCSN/PCLKT0_1 (io), E7 PT59A/MCLK/PCLKT0_0 (io), E8 PT57A/INITN (io)
part B pins: A1 JTAG_EN (io), A2 PR5B/TDO/SSO (io), A3 PR5A/TDI/SSI (io), B1 PR3B/TMS/SCSN (io), B2 PR7A/SDA (io), C1 PR9A/TCK/SCLK (io), C2 PR7B/SCL (io), D1 PR9B (io), D2 VCCIO1 (power), E1 PR11B/PCLKT1_2 (io), E2 PR11A (io), F1 PR13B/PCLKT1_0 (io), F2 PR13A/PCLKT1_1 (io)
part C pins: G1 PB70B/LRC_GPLL0C_IN/VREF3_2 (io), G2 PB70A/LRC_GPLL0T_IN (io), G4 PB60A/PCLKT3_1/ADC_CP6 (io), H1 PB68A/PCLKT3_3/ADC_CP14 (io), H2 PB68B/PCLKC3_3/ADC_CN14 (io), H4 PB60B/PCLKC3_1/ADC_CN6 (io), J1 PB66A/PCLKT3_2/ADC_CP13 (io), J2 PB66B/PCLKC3_2/ADC_CN13 (io), J4 PB58A/ADC_CP7 (io), K1 PB64A/ADC_CP8 (io), K2 PB64B/ADC_CN8 (io), K3 VCCIO3 (power), K4 PB58B/ADC_CN7 (io), L1 PB62B/ADC_CN9 (io), L2 PB62A/ADC_CP9 (io), L3 PB56B/PCLKC3_0/ADC_CN5 (io), L4 PB56A/PCLKT3_0/VREF3_1/ADC_CP5 (io)
part D pins: F5 PB50A (io), F6 PB48B/PCLKC4_2 (io), F7 PB48A/PCLKT4_2 (io), G5 PB50B (io), G7 PB46A (io), G8 PB46B (io), H5 PB52A/PCLKT4_1 (io), H7 PB44B (io), H8 PB44A (io), J5 PB52B/PCLKC4_1 (io), J6 VCCIO4 (power), J8 PB42A/PCLKT4_3 (io), K5 PB54B/PCLKC4_0/VREF4_2 (io), K8 PB42B/PCLKC4_3 (io), K9 PB40B (io), L5 PB54A/PCLKT4_0 (io), L9 PB40A/VREF4_1 (io)
part E pins: G10 PB16B/CDR_RXN0/ADC_CN0/COMP1N (io), G11 PB16A/CDR_RXP0/VREF5_1/ADC_CP0/COMP1P (io), H10 PB18B/PCLKC5_0/CDR_RXN1/ADC_CN1/COMP2N (io), H11 PB18A/PCLKT5_0/CDR_RXP1/ADC_CP1/COMP2P (io), J7 PB28B (io), J9 VCCIO5 (power), J10 PB20B/PCLKC5_1/LLC_GPLL0C_IN/ADC_CN3 (io), J11 PB20A/PCLKT5_1/LLC_GPLL0T_IN/ADC_CP3 (io), K6 PB24B (io), K7 PB28A (io), K10 PB30B/PCLKC5_3/VREF5_2 (io), K11 PB26A/PCLKT5_2/ADC_CP2/COMP3P (io), L6 PB24A (io), L7 PB22A (io), L8 PB22B (io), L10 PB30A/PCLKT5_3 (io), L11 PB26B/PCLKC5_2/ADC_CN2/COMP3N (io)
part F pins: A10 DPHY0_DN3 (io), A11 DPHY0_DP3 (io), B10 DPHY0_DN1 (io), B11 DPHY0_DP1 (io), C8 VCCPLLDPHY0 (power), C10 DPHY0_CKN (io), C11 DPHY0_CKP (io), D9 VCCDPHY0 (power), D10 DPHY0_DN0 (io), D11 DPHY0_DP0 (io), E10 DPHY0_DN2 (io), E11 DPHY0_DP2 (io), F10 VCCADPHY0 (power)
part G pins: A4 VCCADPHY1 (power), A5 DPHY1_DP3 (io), A6 DPHY1_DP1 (io), A7 DPHY1_CKP (io), A8 DPHY1_DP0 (io), A9 DPHY1_DP2 (io), B5 DPHY1_DN3 (io), B6 DPHY1_DN1 (io), B7 DPHY1_CKN (io), B8 DPHY1_DN0 (io), B9 DPHY1_DN2 (io), C4 VCCDPHY1 (power), C6 VCCPLLDPHY1 (power)
part H pins: E9 VCC (power), F4 VCC (power), F8 VCC (power), G3 VCCAUX (power), G6 VCCAUXH4 (power), G9 VCCAUXH5 (power), H3 VCCAUXH3 (power)
part I pins: B4 VSSADPHY (power), C5 VSSADPHY (power), C7 VSSADPHY (power), C9 VSSADPHY (power), D3 VSS (power), F3 VSS (power), F9 VSS (power), F11 VSSADPHY (power), H6 VSS (power), H9 VSS (power), J3 VSS (power)
part A text: BANK0
part B text: BANK1
part C text: BANK3
part D text: BANK4
part E text: BANK5
part F text: BANK60
part G text: BANK61

## LIFCL-17-QFN72
designator U?
LIFCL-17-8SG72I   QFN72
footprint QFN-72_L10.0-W10.0-P0.50-BL-EP6.2
pins: 1 DPHY0_DP2 (io), 2 DPHY0_DN2 (io), 3 DPHY0_DN0 (io), 4 DPHY0_DP0 (io), 5 VCC (power), 6 VCC (power), 7 VCCAUX (power), 8 PB30B/PCLKC5_3/VREF5_2 (io), 9 PB30A/PCLKT5_3 (io), 10 PB20B/PCLKC5_1/LLC_GPLL0C_IN/ADC_CN3 (io), 11 PB20A/PCLKT5_1/LLC_GPLL0T_IN/ADC_CP3 (io), 12 VCC (power), 13 PB16B/CDR_RXN0/ADC_CN0/COMP1N (io), 14 PB16A/CDR_RXP0/VREF5_1/ADC_CP0/COMP1P (io), 15 PB18B/PCLKC5_0/CDR_RXN1/ADC_CN1/COMP2N (io), 16 PB18A/PCLKT5_0/CDR_RXP1/ADC_CP1/COMP2P (io), 17 VCCAUXH5 (power), 18 VCCIO5 (power), 19 PB26A/PCLKT5_2/ADC_CP2/COMP3P (io), 20 PB26B/PCLKC5_2/ADC_CN2/COMP3N (io), 21 VCC (power), 22 PB56A/PCLKT3_0/VREF3_1/ADC_CP5 (io), 23 PB56B/PCLKC3_0/ADC_CN5 (io), 24 PB60A/PCLKT3_1/ADC_CP6 (io), 25 PB60B/PCLKC3_1/ADC_CN6 (io), 26 VCCIO3 (power), 27 PB64A/ADC_CP8 (io), 28 PB64B/ADC_CN8 (io), 29 VCCAUXH3 (power), 30 PB66A/PCLKT3_2/ADC_CP13 (io), 31 PB66B/PCLKC3_2/ADC_CN13 (io), 32 VCCIO3 (power), 33 PB68A/PCLKT3_3/ADC_CP14 (io), 34 PB68B/PCLKC3_3/ADC_CN14 (io), 35 VCC (power), 36 PB70A/LRC_GPLL0T_IN (io), 37 PB70B/LRC_GPLL0C_IN/VREF3_2 (io), 38 VCC (power), 39 VCCADC18 (power), 40 VCC (power), 41 PR9A/TCK/SCLK (io), 42 PR7A/SDA (io), 43 PR9B (io), 44 PR7B/SCL (io), 45 PR5B/TDO/SSO (io), 46 PR5A/TDI/SSI (io), 47 VCCAUX (power), 48 PR3B/TMS/SCSN (io), 49 VCCIO1 (power), 50 JTAG_EN (io), 51 PT63A/MISO/MD1 (io), 52 PT65A/MD3 (io), 53 PT65B/MCSNO/MSDO (io), 54 VCCIO0 (power), 55 PT63B/MD2 (io), 56 PT61A/MCSN/PCLKT0_1 (io), 57 PT61B/MOSI/MD0 (io), 58 PT59B/DONE (io), 59 PT59A/MCLK/PCLKT0_0 (io), 60 PT57B/PROGRAMN (io), 61 PT57A/INITN (io), 62 VCC (power), 63 VCCPLLDPHY0 (power), 64 DPHY0_DP3 (io), 65 DPHY0_DN3 (io), 66 DPHY0_DP1 (io), 67 DPHY0_DN1 (io), 68 DPHY0_CKP (io), 69 DPHY0_CKN (io), 70 VCCDPHY0 (power), 71 VCCADPHY0 (power), 72 VCCDPHY0 (power), 73 EPAD_GND (power)

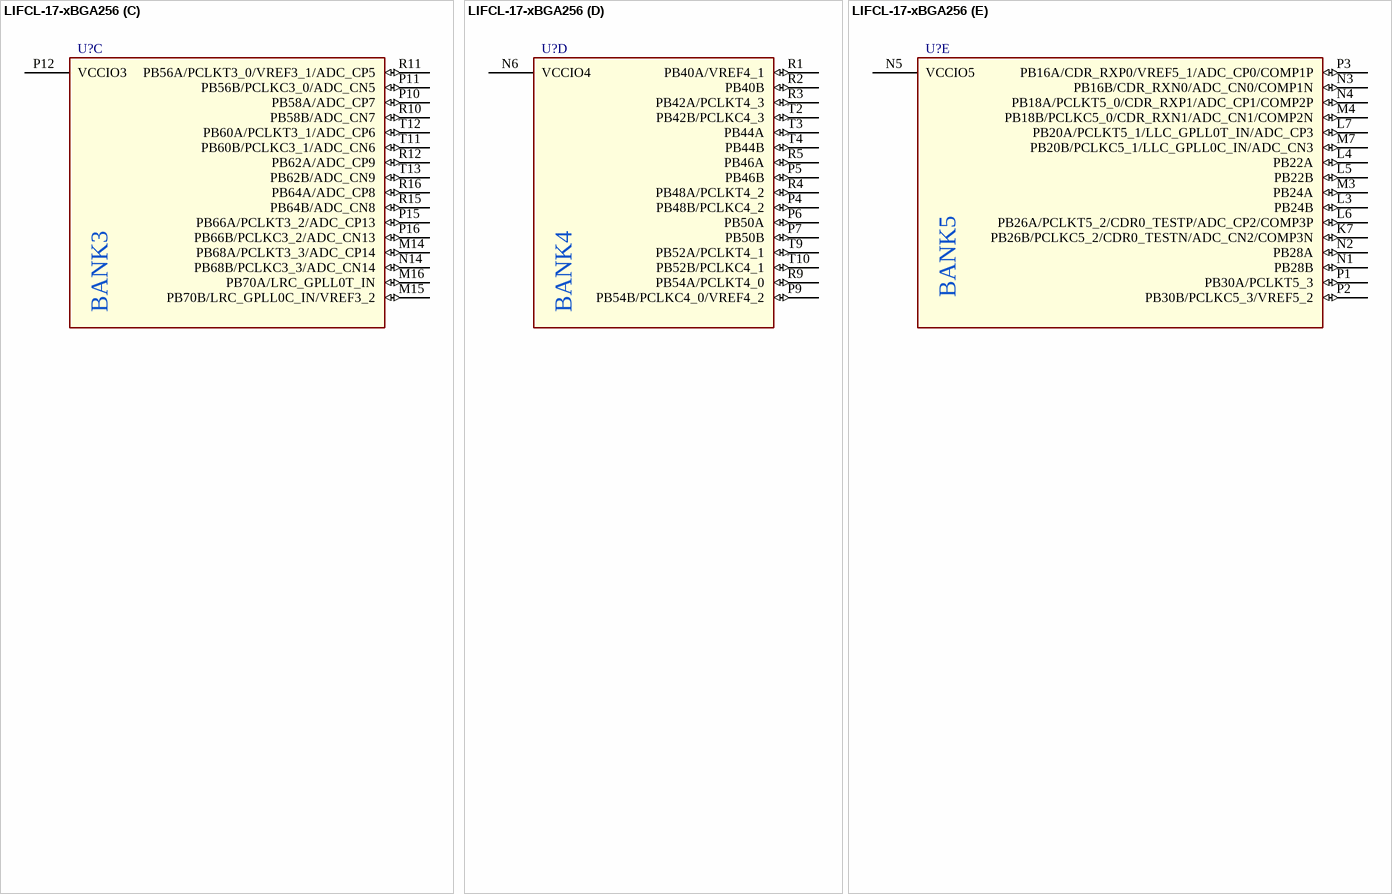
[diagram p5: symbol LIFCL-17-xBGA256]

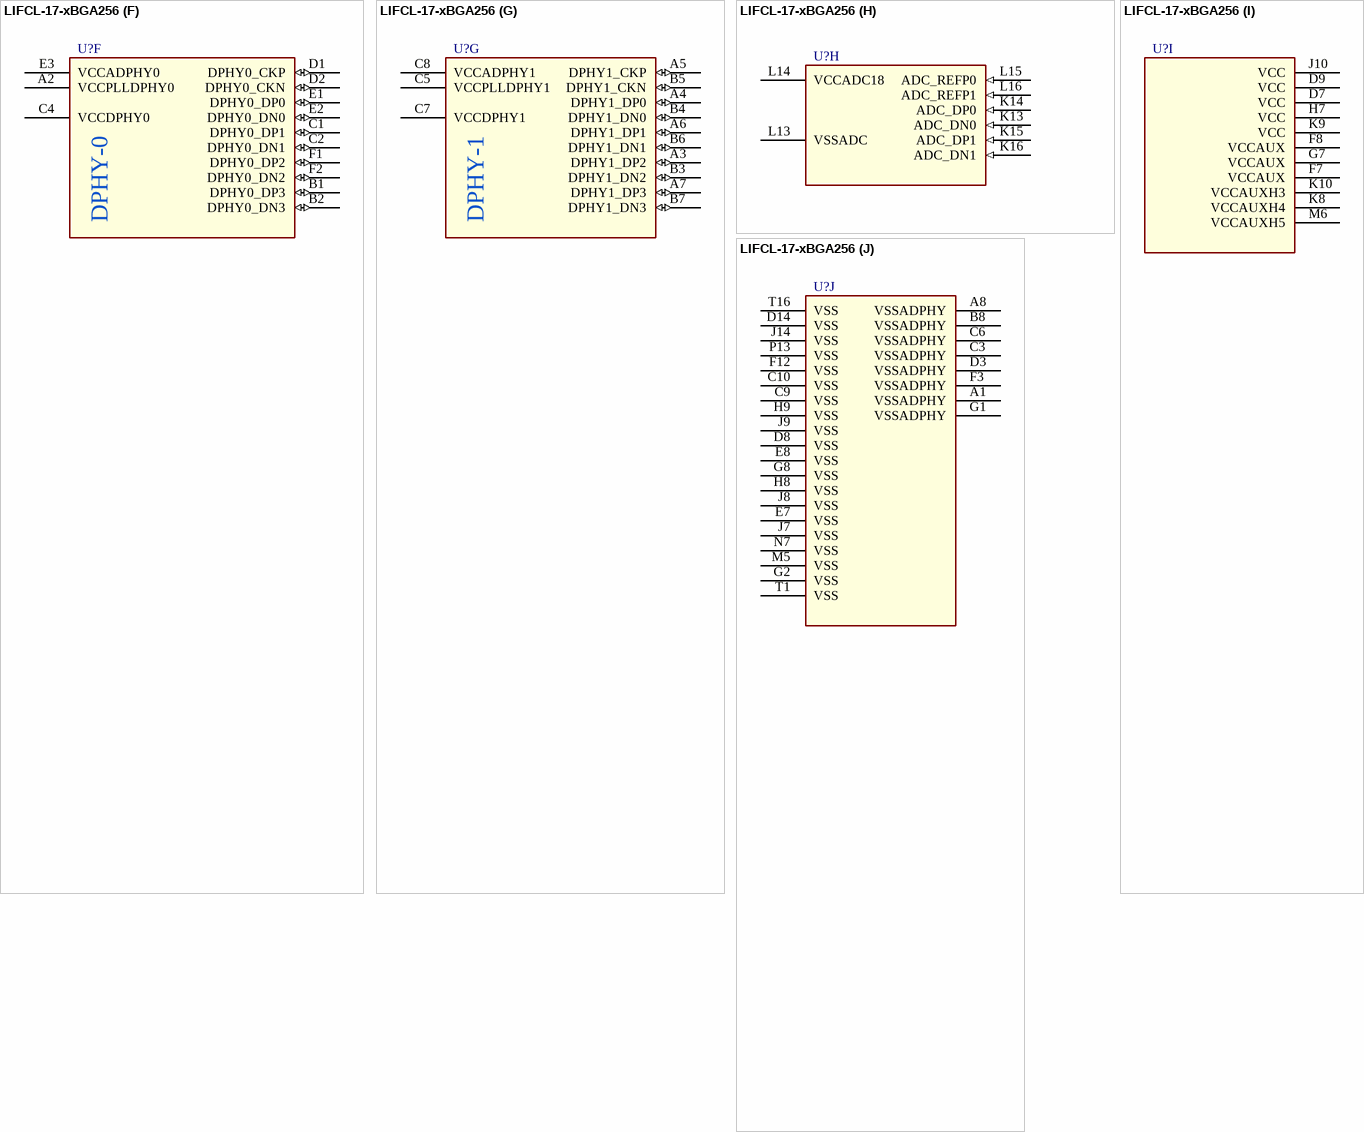
[diagram p6: symbol LIFCL-17-xBGA256]

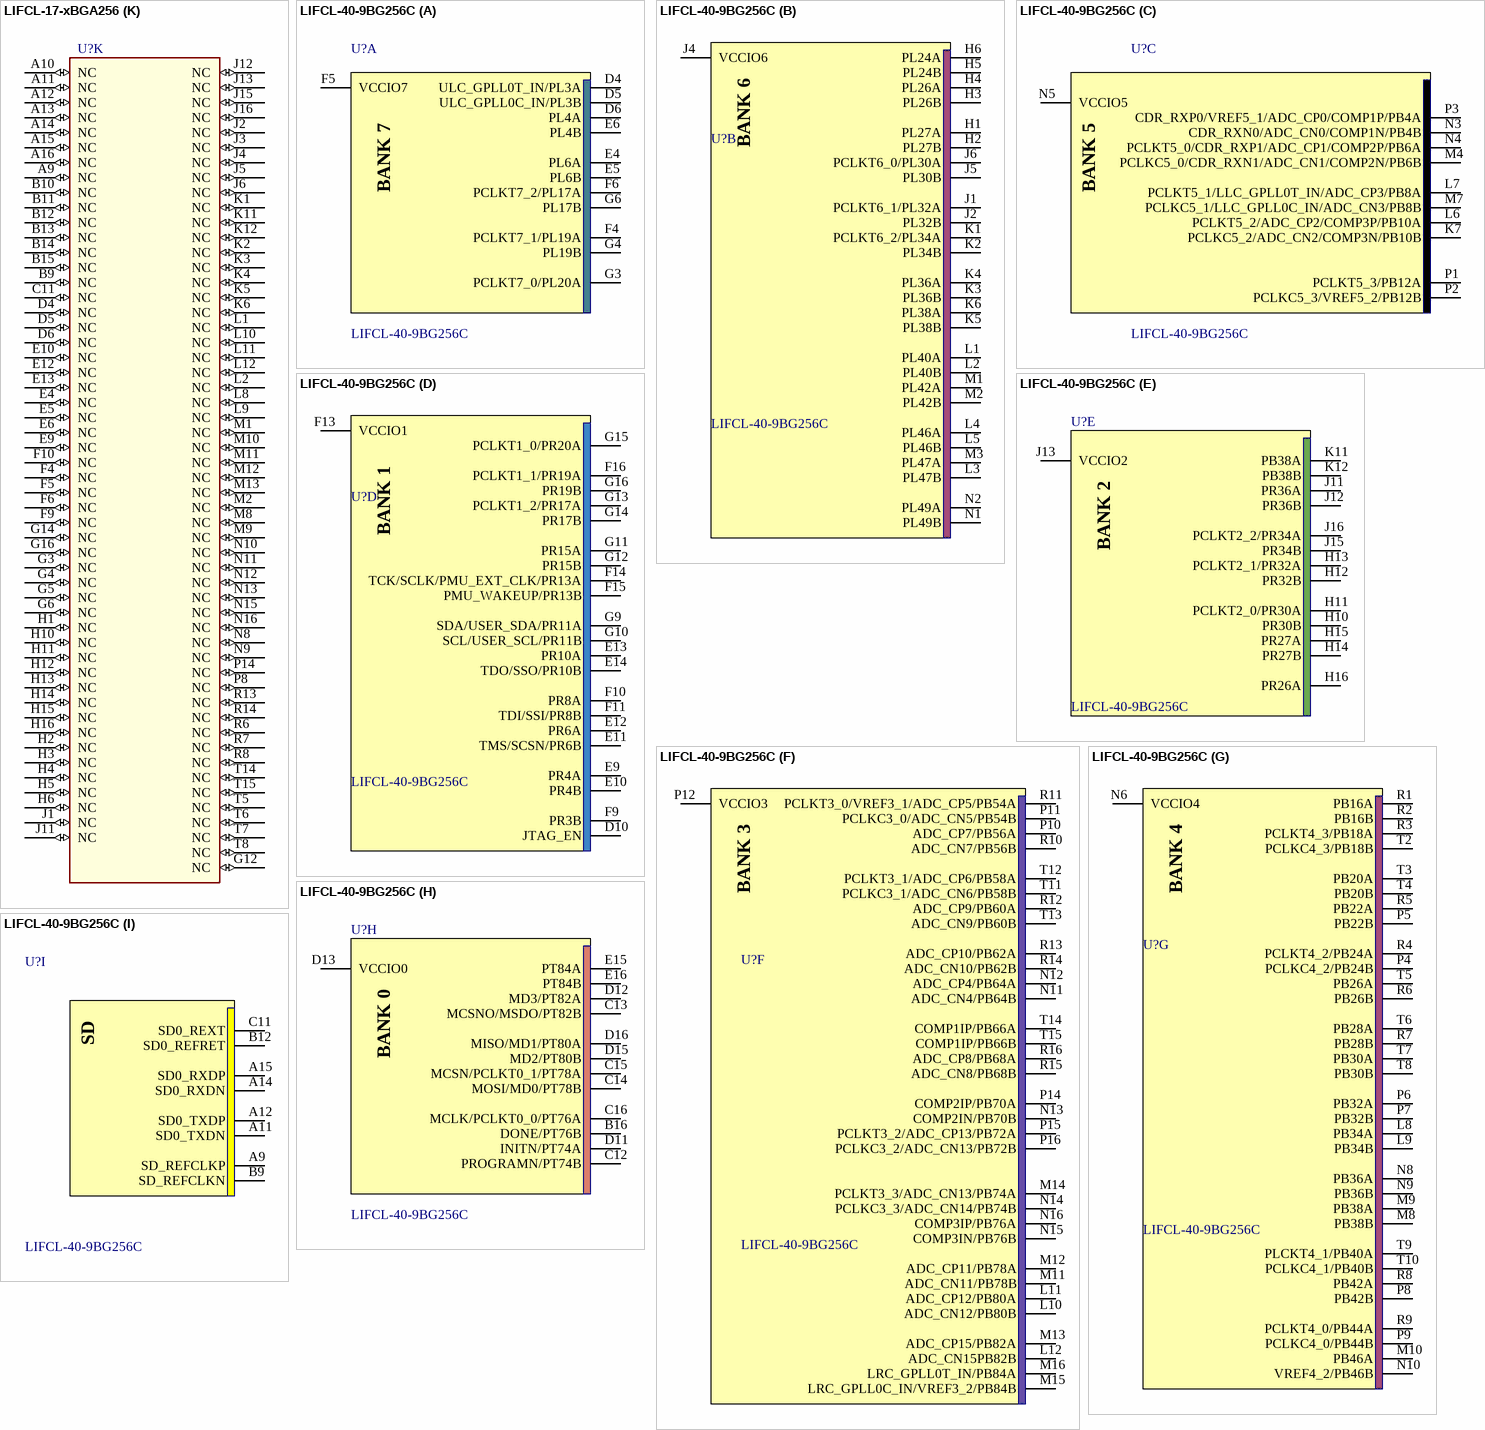
[diagram p7: symbols LIFCL-17-xBGA256 to LIFCL-40-9BG256C]

## LIFCL-17-xBGA256
designator U?
LIFCL-17-xBG256I
footprint CABGA-256_L14.0-W14.0-R16-C16-P0.80-TL
part A pins: B16 PT59B/DONE (io), C12 PT57B/PROGRAMN (io), C13 PT65B/MCSNO/MSDO (io), C14 PT61B/MOSI/MD0 (io), C15 PT61A/MCSN/PCLKT0_1 (io), C16 PT59A/MCLK/PCLKT0_0 (io), D11 PT57A/INITN (io), D12 PT65A/MD3 (io), D13 VCCIO0 (power), D15 PT63B/MD2 (io), D16 PT63A/MISO/MD1 (io), E15 PT67A (io), E16 PT67B (io)
part B pins: D10 JTAG_EN (io), E11 PR3B/TMS/SCSN (io), E14 PR5B/TDO/SSO (io), F11 PR5A/TDI/SSI (io), F13 VCCIO1 (power), F14 PR9A/TCK/SCLK (io), F15 PR9B (io), F16 PR13A/PCLKT1_1 (io), G9 PR7A/SDA (io), G10 PR7B/SCL (io), G11 PR11A (io), G13 PR11B/PCLKT1_2 (io), G15 PR13B/PCLKT1_0 (io)
part C pins: M14 PB68A/PCLKT3_3/ADC_CP14 (io), M15 PB70B/LRC_GPLL0C_IN/VREF3_2 (io), M16 PB70A/LRC_GPLL0T_IN (io), N14 PB68B/PCLKC3_3/ADC_CN14 (io), P10 PB58A/ADC_CP7 (io), P11 PB56B/PCLKC3_0/ADC_CN5 (io), P12 VCCIO3 (power), P15 PB66A/PCLKT3_2/ADC_CP13 (io), P16 PB66B/PCLKC3_2/ADC_CN13 (io), R10 PB58B/ADC_CN7 (io), R11 PB56A/PCLKT3_0/VREF3_1/ADC_CP5 (io), R12 PB62A/ADC_CP9 (io), R15 PB64B/ADC_CN8 (io), R16 PB64A/ADC_CP8 (io), T11 PB60B/PCLKC3_1/ADC_CN6 (io), T12 PB60A/PCLKT3_1/ADC_CP6 (io), T13 PB62B/ADC_CN9 (io)
part D pins: N6 VCCIO4 (power), P4 PB48B/PCLKC4_2 (io), P5 PB46B (io), P6 PB50A (io), P7 PB50B (io), P9 PB54B/PCLKC4_0/VREF4_2 (io), R1 PB40A/VREF4_1 (io), R2 PB40B (io), R3 PB42A/PCLKT4_3 (io), R4 PB48A/PCLKT4_2 (io), R5 PB46A (io), R9 PB54A/PCLKT4_0 (io), T2 PB42B/PCLKC4_3 (io), T3 PB44A (io), T4 PB44B (io), T9 PB52A/PCLKT4_1 (io), T10 PB52B/PCLKC4_1 (io)
part E pins: K7 PB26B/PCLKC5_2/CDR0_TESTN/ADC_CN2/COMP3N (io), L3 PB24B (io), L4 PB22A (io), L5 PB22B (io), L6 PB26A/PCLKT5_2/CDR0_TESTP/ADC_CP2/COMP3P (io), L7 PB20A/PCLKT5_1/LLC_GPLL0T_IN/ADC_CP3 (io), M3 PB24A (io), M4 PB18B/PCLKC5_0/CDR_RXN1/ADC_CN1/COMP2N (io), M7 PB20B/PCLKC5_1/LLC_GPLL0C_IN/ADC_CN3 (io), N1 PB28B (io), N2 PB28A (io), N3 PB16B/CDR_RXN0/ADC_CN0/COMP1N (io), N4 PB18A/PCLKT5_0/CDR_RXP1/ADC_CP1/COMP2P (io), N5 VCCIO5 (power), P1 PB30A/PCLKT5_3 (io), P2 PB30B/PCLKC5_3/VREF5_2 (io), P3 PB16A/CDR_RXP0/VREF5_1/ADC_CP0/COMP1P (io)
part F pins: A2 VCCPLLDPHY0 (power), B1 DPHY0_DP3 (io), B2 DPHY0_DN3 (io), C1 DPHY0_DP1 (io), C2 DPHY0_DN1 (io), C4 VCCDPHY0 (power), D1 DPHY0_CKP (io), D2 DPHY0_CKN (io), E1 DPHY0_DP0 (io), E2 DPHY0_DN0 (io), E3 VCCADPHY0 (power), F1 DPHY0_DP2 (io), F2 DPHY0_DN2 (io)
part G pins: A3 DPHY1_DP2 (io), A4 DPHY1_DP0 (io), A5 DPHY1_CKP (io), A6 DPHY1_DP1 (io), A7 DPHY1_DP3 (io), B3 DPHY1_DN2 (io), B4 DPHY1_DN0 (io), B5 DPHY1_CKN (io), B6 DPHY1_DN1 (io), B7 DPHY1_DN3 (io), C5 VCCPLLDPHY1 (power), C7 VCCDPHY1 (power), C8 VCCADPHY1 (power)
part H pins: K13 ADC_DN0 (in), K14 ADC_DP0 (in), K15 ADC_DP1 (in), K16 ADC_DN1 (in), L13 VSSADC (power), L14 VCCADC18 (power), L15 ADC_REFP0 (in), L16 ADC_REFP1 (in)
part I pins: D7 VCC (power), D9 VCC (power), F7 VCCAUX (power), F8 VCCAUX (power), G7 VCCAUX (power), H7 VCC (power), J10 VCC (power), K8 VCCAUXH4 (power), K9 VCC (power), K10 VCCAUXH3 (power), M6 VCCAUXH5 (power)
part J pins: A1 VSSADPHY (power), A8 VSSADPHY (power), B8 VSSADPHY (power), C3 VSSADPHY (power), C6 VSSADPHY (power), C9 VSS (power), C10 VSS (power), D3 VSSADPHY (power), D8 VSS (power), D14 VSS (power), E7 VSS (power), E8 VSS (power), F3 VSSADPHY (power), F12 VSS (power), G1 VSSADPHY (power), G2 VSS (power), G8 VSS (power), H8 VSS (power), H9 VSS (power), J7 VSS (power), J8 VSS (power), J9 VSS (power), J14 VSS (power), M5 VSS (power), N7 VSS (power), P13 VSS (power), T1 VSS (power), T16 VSS (power)
part K pins: A9 NC (io), A10 NC (io), A11 NC (io), A12 NC (io), A13 NC (io), A14 NC (io), A15 NC (io), A16 NC (io), B9 NC (io), B10 NC (io), B11 NC (io), B12 NC (io), B13 NC (io), B14 NC (io), B15 NC (io), C11 NC (io), D4 NC (io), D5 NC (io), D6 NC (io), E4 NC (io), E5 NC (io), E6 NC (io), E9 NC (io), E10 NC (io), E12 NC (io), E13 NC (io), F4 NC (io), F5 NC (io), F6 NC (io), F9 NC (io), F10 NC (io), G3 NC (io), G4 NC (io), G5 NC (io), G6 NC (io), G12 NC (io), G14 NC (io), G16 NC (io), H1 NC (io), H2 NC (io), H3 NC (io), H4 NC (io), H5 NC (io), H6 NC (io), H10 NC (io), H11 NC (io), H12 NC (io), H13 NC (io), H14 NC (io), H15 NC (io), H16 NC (io), J1 NC (io), J2 NC (io), J3 NC (io), J4 NC (io), J5 NC (io), J6 NC (io), J11 NC (io), J12 NC (io), J13 NC (io), J15 NC (io), J16 NC (io), K1 NC (io), K2 NC (io), K3 NC (io), K4 NC (io), K5 NC (io), K6 NC (io), K11 NC (io), K12 NC (io), L1 NC (io), L2 NC (io), L8 NC (io), L9 NC (io), L10 NC (io), L11 NC (io), L12 NC (io), M1 NC (io), M2 NC (io), M8 NC (io), M9 NC (io), M10 NC (io), M11 NC (io), M12 NC (io), M13 NC (io), N8 NC (io), N9 NC (io), N10 NC (io), N11 NC (io), N12 NC (io), N13 NC (io), N15 NC (io), N16 NC (io), P8 NC (io), P14 NC (io), R6 NC (io), R7 NC (io), R8 NC (io), R13 NC (io), R14 NC (io), T5 NC (io), T6 NC (io), T7 NC (io), T8 NC (io), T14 NC (io), T15 NC (io)
part A text: BANK0
part B text: BANK1
part C text: BANK3
part D text: BANK4
part E text: BANK5
part F text: DPHY-0
part G text: DPHY-1

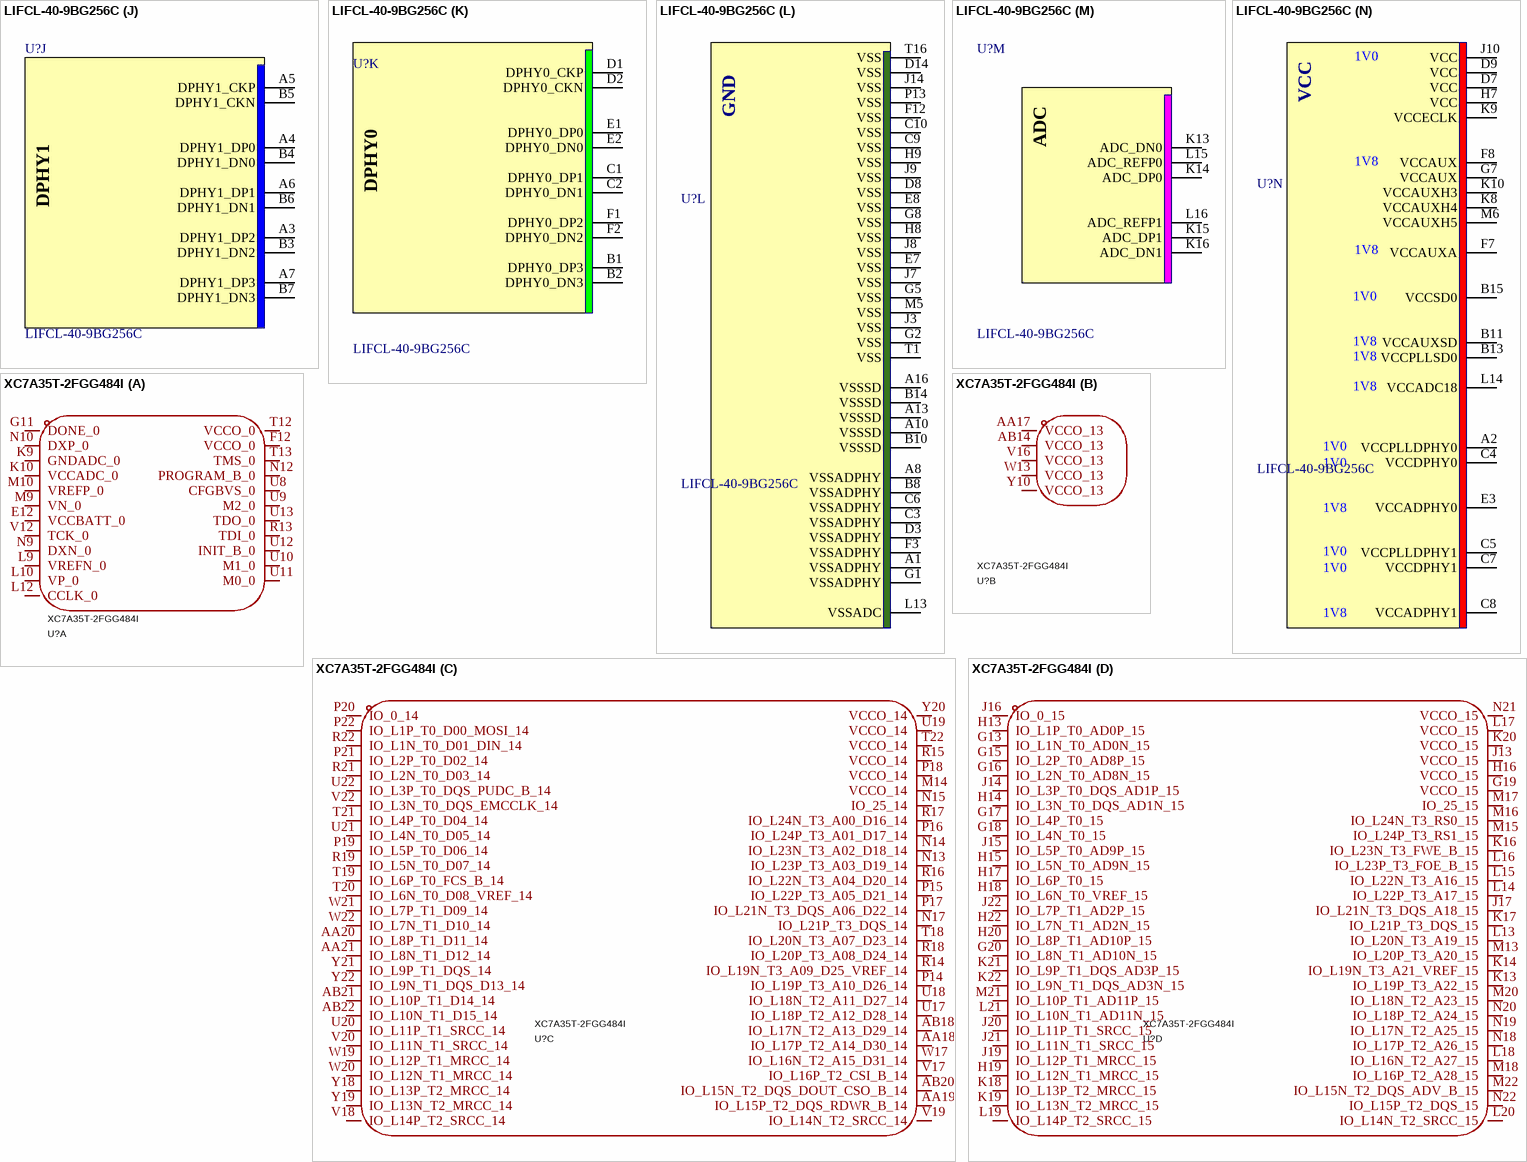
[diagram p8: symbols LIFCL-40-9BG256C to XC7A35T-2FGG484I]

## LIFCL-40-9BG256C
designator U?
FPGA CorsslinkNX  LIFCL-40-9BG256C
footprint CABGA-256_L14.0-W14.0-R16-C16-P0.80-TL
part A pins: D4 ULC_GPLL0T_IN/PL3A, D5 ULC_GPLL0C_IN/PL3B, D6 PL4A, E4 PL6A, E5 PL6B, E6 PL4B, F4 PCLKT7_1/PL19A, F5 VCCIO7, F6 PCLKT7_2/PL17A, G3 PCLKT7_0/PL20A, G4 PL19B, G6 PL17B
part B pins: H1 PL27A, H2 PL27B, H3 PL26B, H4 PL26A, H5 PL24B, H6 PL24A, J1 PCLKT6_1/PL32A, J2 PL32B, J4 VCCIO6, J5 PL30B, J6 PCLKT6_0/PL30A, K1 PCLKT6_2/PL34A, K2 PL34B, K3 PL36B, K4 PL36A, K5 PL38B, K6 PL38A, L1 PL40A, L2 PL40B, L3 PL47B, L4 PL46A, L5 PL46B, M1 PL42A, M2 PL42B, M3 PL47A, N1 PL49B, N2 PL49A
part C pins: K7 PCLKC5_2/ADC_CN2/COMP3N/PB10B, L6 PCLKT5_2/ADC_CP2/COMP3P/PB10A, L7 PCLKT5_1/LLC_GPLL0T_IN/ADC_CP3/PB8A, M4 PCLKC5_0/CDR_RXN1/ADC_CN1/COMP2N/PB6B, M7 PCLKC5_1/LLC_GPLL0C_IN/ADC_CN3/PB8B, N3 CDR_RXN0/ADC_CN0/COMP1N/PB4B, N4 PCLKT5_0/CDR_RXP1/ADC_CP1/COMP2P/PB6A, N5 VCCIO5, P1 PCLKT5_3/PB12A, P2 PCLKC5_3/VREF5_2/PB12B, P3 CDR_RXP0/VREF5_1/ADC_CP0/COMP1P/PB4A
part D pins: D10 JTAG_EN, E9 PR4A, E10 PR4B, E11 TMS/SCSN/PR6B, E12 PR6A, E13 PR10A, E14 TDO/SSO/PR10B, F9 PR3B, F10 PR8A, F11 TDI/SSI/PR8B, F13 VCCIO1, F14 TCK/SCLK/PMU_EXT_CLK/PR13A, F15 PMU_WAKEUP/PR13B, F16 PCLKT1_1/PR19A, G9 SDA/USER_SDA/PR11A, G10 SCL/USER_SCL/PR11B, G11 PR15A, G12 PR15B, G13 PCLKT1_2/PR17A, G14 PR17B, G15 PCLKT1_0/PR20A, G16 PR19B
part E pins: H10 PR30B, H11 PCLKT2_0/PR30A, H12 PR32B, H13 PCLKT2_1/PR32A, H14 PR27B, H15 PR27A, H16 PR26A, J11 PR36A, J12 PR36B, J13 VCCIO2, J15 PR34B, J16 PCLKT2_2/PR34A, K11 PB38A, K12 PB38B
part F pins: L10 ADC_CN12/PB80B, L11 ADC_CP12/PB80A, L12 ADC_CN15PB82B, M11 ADC_CN11/PB78B, M12 ADC_CP11/PB78A, M13 ADC_CP15/PB82A, M14 PCLKT3_3/ADC_CN13/PB74A, M15 LRC_GPLL0C_IN/VREF3_2/PB84B, M16 LRC_GPLL0T_IN/PB84A, N11 ADC_CN4/PB64B, N12 ADC_CP4/PB64A, N13 COMP2IN/PB70B, N14 PCLKC3_3/ADC_CN14/PB74B, N15 COMP3IN/PB76B, N16 COMP3IP/PB76A, P10 ADC_CP7/PB56A, P11 PCLKC3_0/ADC_CN5/PB54B, P12 VCCIO3, P14 COMP2IP/PB70A, P15 PCLKT3_2/ADC_CP13/PB72A, P16 PCLKC3_2/ADC_CN13/PB72B, R10 ADC_CN7/PB56B, R11 PCLKT3_0/VREF3_1/ADC_CP5/PB54A, R12 ADC_CP9/PB60A, R13 ADC_CP10/PB62A, R14 ADC_CN10/PB62B, R15 ADC_CN8/PB68B, R16 ADC_CP8/PB68A, T11 PCLKC3_1/ADC_CN6/PB58B, T12 PCLKT3_1/ADC_CP6/PB58A, T13 ADC_CN9/PB60B, T14 COMP1IP/PB66A, T15 COMP1IP/PB66B
part G pins: L8 PB34A, L9 PB34B, M8 PB38B, M9 PB38A, M10 PB46A, N6 VCCIO4, N8 PB36A, N9 PB36B, N10 VREF4_2/PB46B, P4 PCLKC4_2/PB24B, P5 PB22B, P6 PB32A, P7 PB32B, P8 PB42B, P9 PCLKC4_0/PB44B, R1 PB16A, R2 PB16B, R3 PCLKT4_3/PB18A, R4 PCLKT4_2/PB24A, R5 PB22A, R6 PB26B, R7 PB28B, R8 PB42A, R9 PCLKT4_0/PB44A, T2 PCLKC4_3/PB18B, T3 PB20A, T4 PB20B, T5 PB26A, T6 PB28A, T7 PB30A, T8 PB30B, T9 PLCKT4_1/PB40A, T10 PCLKC4_1/PB40B
part H pins: B16 DONE/PT76B, C12 PROGRAMN/PT74B, C13 MCSNO/MSDO/PT82B, C14 MOSI/MD0/PT78B, C15 MCSN/PCLKT0_1/PT78A, C16 MCLK/PCLKT0_0/PT76A, D11 INITN/PT74A, D12 MD3/PT82A, D13 VCCIO0, D15 MD2/PT80B, D16 MISO/MD1/PT80A, E15 PT84A, E16 PT84B
part I pins: A9 SD_REFCLKP, A11 SD0_TXDN, A12 SD0_TXDP, A14 SD0_RXDN, A15 SD0_RXDP, B9 SD_REFCLKN, B12 SD0_REFRET, C11 SD0_REXT
part J pins: A3 DPHY1_DP2, A4 DPHY1_DP0, A5 DPHY1_CKP, A6 DPHY1_DP1, A7 DPHY1_DP3, B3 DPHY1_DN2, B4 DPHY1_DN0, B5 DPHY1_CKN, B6 DPHY1_DN1, B7 DPHY1_DN3
part K pins: B1 DPHY0_DP3, B2 DPHY0_DN3, C1 DPHY0_DP1, C2 DPHY0_DN1, D1 DPHY0_CKP, D2 DPHY0_CKN, E1 DPHY0_DP0, E2 DPHY0_DN0, F1 DPHY0_DP2, F2 DPHY0_DN2
part L pins: A1 VSSADPHY, A8 VSSADPHY, A10 VSSSD, A13 VSSSD, A16 VSSSD, B8 VSSADPHY, B10 VSSSD, B14 VSSSD, C3 VSSADPHY, C6 VSSADPHY, C9 VSS, C10 VSS, D3 VSSADPHY, D8 VSS, D14 VSS, E7 VSS, E8 VSS, F3 VSSADPHY, F12 VSS, G1 VSSADPHY, G2 VSS, G5 VSS, G8 VSS, H8 VSS, H9 VSS, J3 VSS, J7 VSS, J8 VSS, J9 VSS, J14 VSS, L13 VSSADC, M5 VSS, P13 VSS, T1 VSS, T16 VSS
part M pins: K13 ADC_DN0, K14 ADC_DP0, K15 ADC_DP1, K16 ADC_DN1, L15 ADC_REFP0, L16 ADC_REFP1
part N pins: A2 VCCPLLDPHY0, B11 VCCAUXSD, B13 VCCPLLSD0, B15 VCCSD0, C4 VCCDPHY0, C5 VCCPLLDPHY1, C7 VCCDPHY1, C8 VCCADPHY1, D7 VCC, D9 VCC, E3 VCCADPHY0, F7 VCCAUXA, F8 VCCAUX, G7 VCCAUX, H7 VCC, J10 VCC, K8 VCCAUXH4, K9 VCCECLK, K10 VCCAUXH3, L14 VCCADC18, M6 VCCAUXH5
part A text: BANK 7
part B text: BANK 6
part C text: BANK 5
part D text: BANK 1
part E text: BANK 2
part F text: BANK 3
part G text: BANK 4
part H text: BANK 0
part I text: SD
part J text: DPHY1
part K text: DPHY0
part L text: GND
part M text: ADC
part N text: 1V0; 1V8

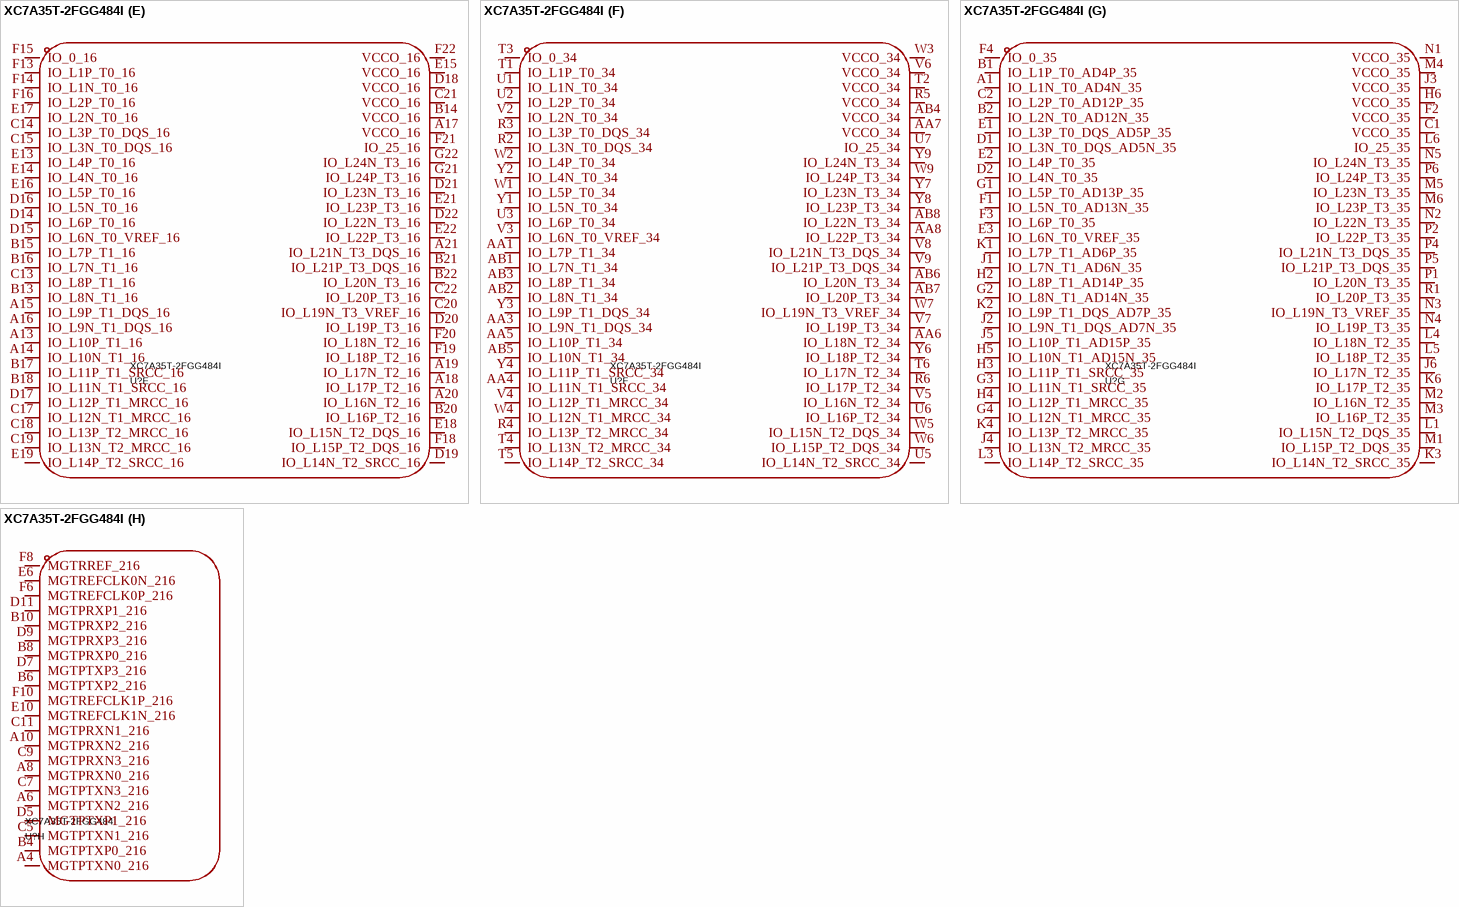
[diagram p9: symbol XC7A35T-2FGG484I]

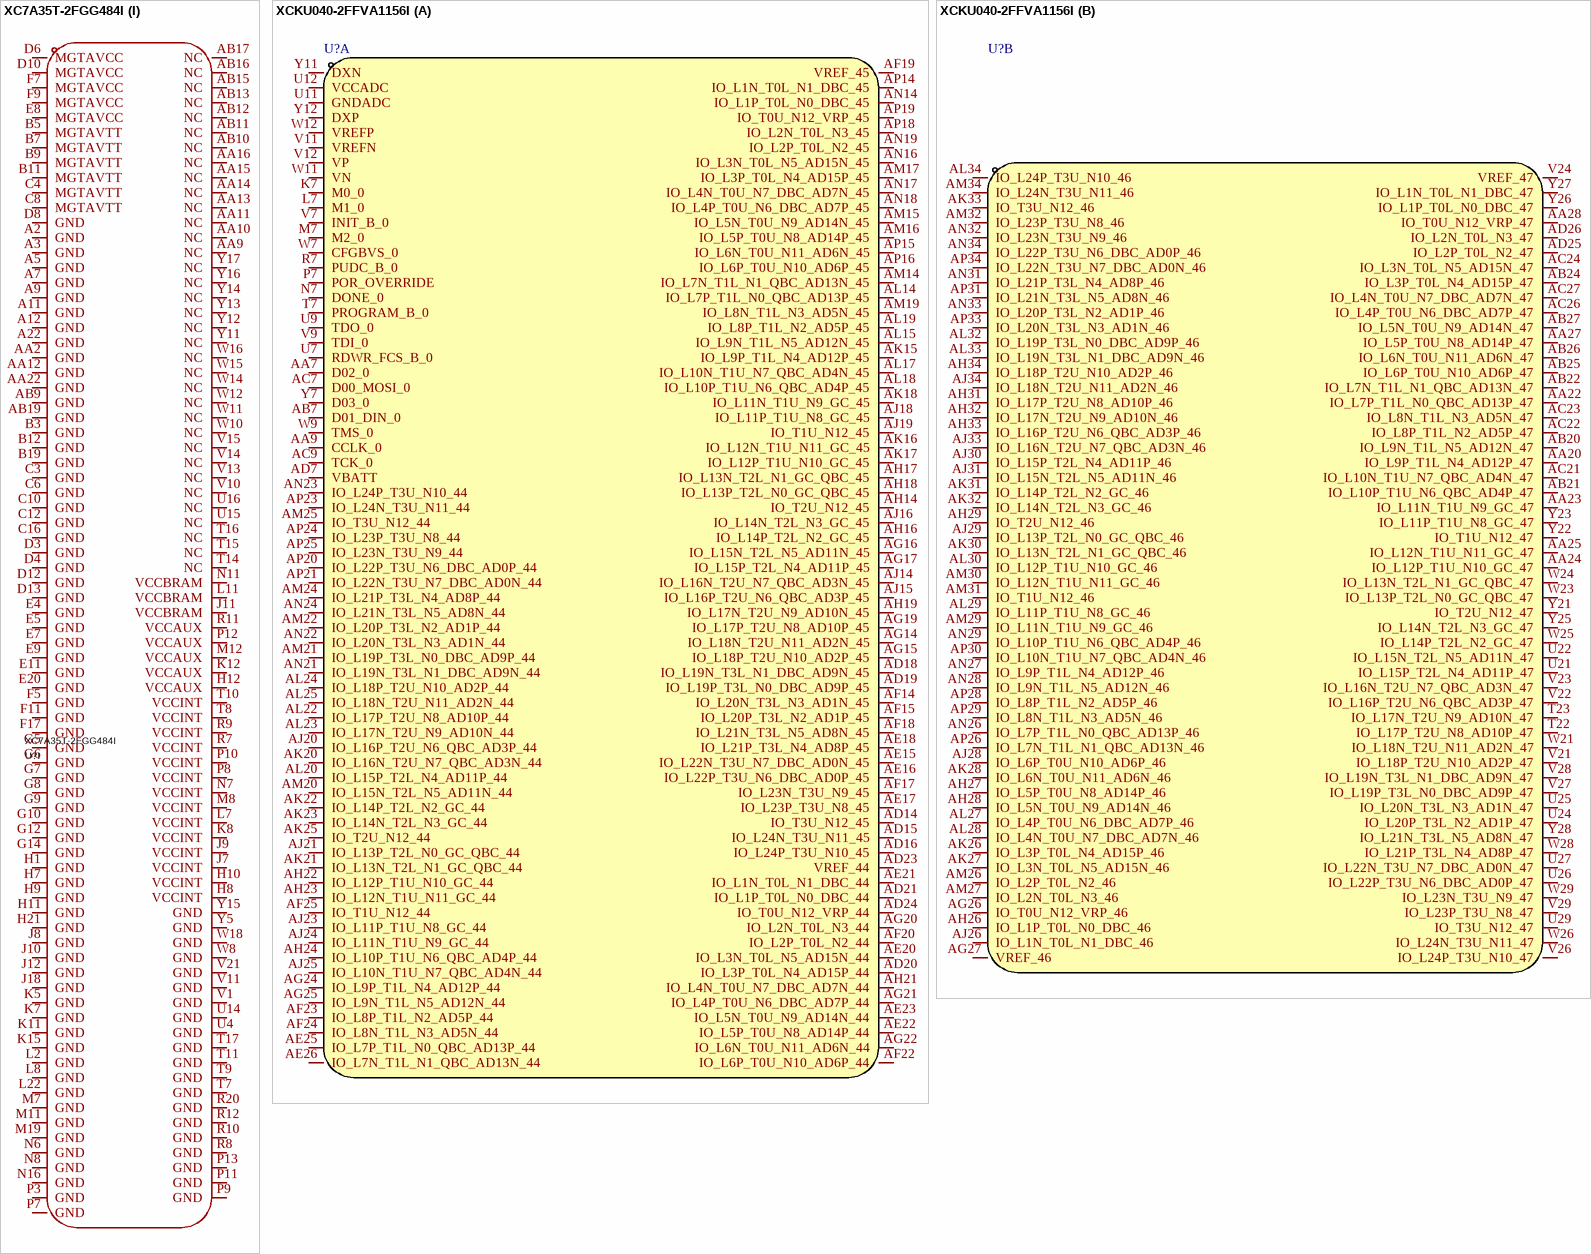
[diagram p10: symbols XC7A35T-2FGG484I to XCKU040-2FFVA1156I]

## XC7A35T-2FGG484I
designator U?
Manufacturer: AMD/XILINX(赛灵思); Add into BOM: yes; Symbol: XC7A35T-2FGG484I; Device: XC7A35T-2FGG484I; LCSC Part Name: XC7A35T 2FGG484I -; Supplier Part: C1521727; Manufacturer Part: XC7A35T-2FGG484I; Supplier Footprint: FBGA-484; JLCPCB Part Class: Extended Part; Datasheet: https://atta.szlcsc.com/upload/public/pdf/source/20230606/8F3E5F87A09289075E6577D6A972425B.pdf; Supplier: LCSC; Convert to PCB: yes
footprint FBGA-484_L23.0-W23.0-R22-C22-P1.00-TL-1
3D model FBGA-484_L23.0-W23.0-R22-C22-P1.00-TL-1
part A pins: E12 VCCBATT_0, F12 VCCO_0, G11 DONE_0, K9 GNDADC_0, K10 VCCADC_0, L9 VREFN_0, L10 VP_0, L12 CCLK_0, M9 VN_0, M10 VREFP_0, N9 DXN_0, N10 DXP_0, N12 PROGRAM_B_0, R13 TDI_0, T12 VCCO_0, T13 TMS_0, U8 CFGBVS_0, U9 M2_0, U10 M1_0, U11 M0_0, U12 INIT_B_0, U13 TDO_0, V12 TCK_0
part B pins: AA17 VCCO_13, AB14 VCCO_13, V16 VCCO_13, W13 VCCO_13, Y10 VCCO_13
part C pins: AA18 IO_L17P_T2_A14_D30_14, AA19 IO_L15P_T2_DQS_RDWR_B_14, AA20 IO_L8P_T1_D11_14, AA21 IO_L8N_T1_D12_14, AB18 IO_L17N_T2_A13_D29_14, AB20 IO_L15N_T2_DQS_DOUT_CSO_B_14, AB21 IO_L10P_T1_D14_14, AB22 IO_L10N_T1_D15_14, M14 VCCO_14, N13 IO_L23P_T3_A03_D19_14, N14 IO_L23N_T3_A02_D18_14, N15 IO_25_14, N17 IO_L21P_T3_DQS_14, P14 IO_L19P_T3_A10_D26_14, P15 IO_L22P_T3_A05_D21_14, P16 IO_L24P_T3_A01_D17_14, P17 IO_L21N_T3_DQS_A06_D22_14, P18 VCCO_14, P19 IO_L5P_T0_D06_14, P20 IO_0_14, P21 IO_L2P_T0_D02_14, P22 IO_L1P_T0_D00_MOSI_14, R14 IO_L19N_T3_A09_D25_VREF_14, R15 VCCO_14, R16 IO_L22N_T3_A04_D20_14, R17 IO_L24N_T3_A00_D16_14, R18 IO_L20P_T3_A08_D24_14, R19 IO_L5N_T0_D07_14, R21 IO_L2N_T0_D03_14, R22 IO_L1N_T0_D01_DIN_14, T18 IO_L20N_T3_A07_D23_14, T19 IO_L6P_T0_FCS_B_14, T20 IO_L6N_T0_D08_VREF_14, T21 IO_L4P_T0_D04_14, T22 VCCO_14, U17 IO_L18P_T2_A12_D28_14, U18 IO_L18N_T2_A11_D27_14, U19 VCCO_14, U20 IO_L11P_T1_SRCC_14, U21 IO_L4N_T0_D05_14, U22 IO_L3P_T0_DQS_PUDC_B_14, V17 IO_L16P_T2_CSI_B_14, V18 IO_L14P_T2_SRCC_14, V19 IO_L14N_T2_SRCC_14, V20 IO_L11N_T1_SRCC_14, V22 IO_L3N_T0_DQS_EMCCLK_14, W17 IO_L16N_T2_A15_D31_14, W19 IO_L12P_T1_MRCC_14, W20 IO_L12N_T1_MRCC_14, W21 IO_L7P_T1_D09_14, W22 IO_L7N_T1_D10_14, Y18 IO_L13P_T2_MRCC_14, Y19 IO_L13N_T2_MRCC_14, Y20 VCCO_14, Y21 IO_L9P_T1_DQS_14, Y22 IO_L9N_T1_DQS_D13_14
part D pins: G13 IO_L1N_T0_AD0N_15, G15 IO_L2P_T0_AD8P_15, G16 IO_L2N_T0_AD8N_15, G17 IO_L4P_T0_15, G18 IO_L4N_T0_15, G19 VCCO_15, G20 IO_L8N_T1_AD10N_15, H13 IO_L1P_T0_AD0P_15, H14 IO_L3N_T0_DQS_AD1N_15, H15 IO_L5N_T0_AD9N_15, H16 VCCO_15, H17 IO_L6P_T0_15, H18 IO_L6N_T0_VREF_15, H19 IO_L12N_T1_MRCC_15, H20 IO_L8P_T1_AD10P_15, H22 IO_L7N_T1_AD2N_15, J13 VCCO_15, J14 IO_L3P_T0_DQS_AD1P_15, J15 IO_L5P_T0_AD9P_15, J16 IO_0_15, J17 IO_L21N_T3_DQS_A18_15, J19 IO_L12P_T1_MRCC_15, J20 IO_L11P_T1_SRCC_15, J21 IO_L11N_T1_SRCC_15, J22 IO_L7P_T1_AD2P_15, K13 IO_L19P_T3_A22_15, K14 IO_L19N_T3_A21_VREF_15, K16 IO_L23N_T3_FWE_B_15, K17 IO_L21P_T3_DQS_15, K18 IO_L13P_T2_MRCC_15, K19 IO_L13N_T2_MRCC_15, K20 VCCO_15, K21 IO_L9P_T1_DQS_AD3P_15, K22 IO_L9N_T1_DQS_AD3N_15, L13 IO_L20N_T3_A19_15, L14 IO_L22P_T3_A17_15, L15 IO_L22N_T3_A16_15, L16 IO_L23P_T3_FOE_B_15, L17 VCCO_15, L18 IO_L16N_T2_A27_15, L19 IO_L14P_T2_SRCC_15, L20 IO_L14N_T2_SRCC_15, L21 IO_L10N_T1_AD11N_15, M13 IO_L20P_T3_A20_15, M15 IO_L24P_T3_RS1_15, M16 IO_L24N_T3_RS0_15, M17 IO_25_15, M18 IO_L16P_T2_A28_15, M20 IO_L18N_T2_A23_15, M21 IO_L10P_T1_AD11P_15, M22 IO_L15N_T2_DQS_ADV_B_15, N18 IO_L17P_T2_A26_15, N19 IO_L17N_T2_A25_15, N20 IO_L18P_T2_A24_15, N21 VCCO_15, N22 IO_L15P_T2_DQS_15
part E pins: A13 IO_L10P_T1_16, A14 IO_L10N_T1_16, A15 IO_L9P_T1_DQS_16, A16 IO_L9N_T1_DQS_16, A17 VCCO_16, A18 IO_L17P_T2_16, A19 IO_L17N_T2_16, A20 IO_L16N_T2_16, A21 IO_L21N_T3_DQS_16, B13 IO_L8N_T1_16, B14 VCCO_16, B15 IO_L7P_T1_16, B16 IO_L7N_T1_16, B17 IO_L11P_T1_SRCC_16, B18 IO_L11N_T1_SRCC_16, B20 IO_L16P_T2_16, B21 IO_L21P_T3_DQS_16, B22 IO_L20N_T3_16, C13 IO_L8P_T1_16, C14 IO_L3P_T0_DQS_16, C15 IO_L3N_T0_DQS_16, C17 IO_L12N_T1_MRCC_16, C18 IO_L13P_T2_MRCC_16, C19 IO_L13N_T2_MRCC_16, C20 IO_L19N_T3_VREF_16, C21 VCCO_16, C22 IO_L20P_T3_16, D14 IO_L6P_T0_16, D15 IO_L6N_T0_VREF_16, D16 IO_L5N_T0_16, D17 IO_L12P_T1_MRCC_16, D18 VCCO_16, D19 IO_L14N_T2_SRCC_16, D20 IO_L19P_T3_16, D21 IO_L23N_T3_16, D22 IO_L22N_T3_16, E13 IO_L4P_T0_16, E14 IO_L4N_T0_16, E15 VCCO_16, E16 IO_L5P_T0_16, E17 IO_L2N_T0_16, E18 IO_L15N_T2_DQS_16, E19 IO_L14P_T2_SRCC_16, E21 IO_L23P_T3_16, E22 IO_L22P_T3_16, F13 IO_L1P_T0_16, F14 IO_L1N_T0_16, F15 IO_0_16, F16 IO_L2P_T0_16, F18 IO_L15P_T2_DQS_16, F19 IO_L18P_T2_16, F20 IO_L18N_T2_16, F21 IO_25_16, F22 VCCO_16, G21 IO_L24P_T3_16, G22 IO_L24N_T3_16
part F pins: AA1 IO_L7P_T1_34, AA3 IO_L9N_T1_DQS_34, AA4 IO_L11N_T1_SRCC_34, AA5 IO_L10P_T1_34, AA6 IO_L18N_T2_34, AA7 VCCO_34, AA8 IO_L22P_T3_34, AB1 IO_L7N_T1_34, AB2 IO_L8N_T1_34, AB3 IO_L8P_T1_34, AB4 VCCO_34, AB5 IO_L10N_T1_34, AB6 IO_L20N_T3_34, AB7 IO_L20P_T3_34, AB8 IO_L22N_T3_34, R2 IO_L3N_T0_DQS_34, R3 IO_L3P_T0_DQS_34, R4 IO_L13P_T2_MRCC_34, R5 VCCO_34, R6 IO_L17P_T2_34, T1 IO_L1P_T0_34, T2 VCCO_34, T3 IO_0_34, T4 IO_L13N_T2_MRCC_34, T5 IO_L14P_T2_SRCC_34, T6 IO_L17N_T2_34, U1 IO_L1N_T0_34, U2 IO_L2P_T0_34, U3 IO_L6P_T0_34, U5 IO_L14N_T2_SRCC_34, U6 IO_L16P_T2_34, U7 IO_25_34, V2 IO_L2N_T0_34, V3 IO_L6N_T0_VREF_34, V4 IO_L12P_T1_MRCC_34, V5 IO_L16N_T2_34, V6 VCCO_34, V7 IO_L19P_T3_34, V8 IO_L21N_T3_DQS_34, V9 IO_L21P_T3_DQS_34, W1 IO_L5P_T0_34, W2 IO_L4P_T0_34, W3 VCCO_34, W4 IO_L12N_T1_MRCC_34, W5 IO_L15N_T2_DQS_34, W6 IO_L15P_T2_DQS_34, W7 IO_L19N_T3_VREF_34, W9 IO_L24P_T3_34, Y1 IO_L5N_T0_34, Y2 IO_L4N_T0_34, Y3 IO_L9P_T1_DQS_34, Y4 IO_L11P_T1_SRCC_34, Y6 IO_L18P_T2_34, Y7 IO_L23N_T3_34, Y8 IO_L23P_T3_34, Y9 IO_L24N_T3_34
part G pins: A1 IO_L1N_T0_AD4N_35, B1 IO_L1P_T0_AD4P_35, B2 IO_L2N_T0_AD12N_35, C1 VCCO_35, C2 IO_L2P_T0_AD12P_35, D1 IO_L3N_T0_DQS_AD5N_35, D2 IO_L4N_T0_35, E1 IO_L3P_T0_DQS_AD5P_35, E2 IO_L4P_T0_35, E3 IO_L6N_T0_VREF_35, F1 IO_L5N_T0_AD13N_35, F2 VCCO_35, F3 IO_L6P_T0_35, F4 IO_0_35, G1 IO_L5P_T0_AD13P_35, G2 IO_L8N_T1_AD14N_35, G3 IO_L11N_T1_SRCC_35, G4 IO_L12N_T1_MRCC_35, H2 IO_L8P_T1_AD14P_35, H3 IO_L11P_T1_SRCC_35, H4 IO_L12P_T1_MRCC_35, H5 IO_L10N_T1_AD15N_35, H6 VCCO_35, J1 IO_L7N_T1_AD6N_35, J2 IO_L9N_T1_DQS_AD7N_35, J3 VCCO_35, J4 IO_L13N_T2_MRCC_35, J5 IO_L10P_T1_AD15P_35, J6 IO_L17N_T2_35, K1 IO_L7P_T1_AD6P_35, K2 IO_L9P_T1_DQS_AD7P_35, K3 IO_L14N_T2_SRCC_35, K4 IO_L13P_T2_MRCC_35, K6 IO_L17P_T2_35, L1 IO_L15N_T2_DQS_35, L3 IO_L14P_T2_SRCC_35, L4 IO_L18N_T2_35, L5 IO_L18P_T2_35, L6 IO_25_35, M1 IO_L15P_T2_DQS_35, M2 IO_L16N_T2_35, M3 IO_L16P_T2_35, M4 VCCO_35, M5 IO_L23N_T3_35, M6 IO_L23P_T3_35, N1 VCCO_35, N2 IO_L22N_T3_35, N3 IO_L19N_T3_VREF_35, N4 IO_L19P_T3_35, N5 IO_L24N_T3_35, P1 IO_L20N_T3_35, P2 IO_L22P_T3_35, P4 IO_L21N_T3_DQS_35, P5 IO_L21P_T3_DQS_35, P6 IO_L24P_T3_35, R1 IO_L20P_T3_35
part H pins: A4 MGTPTXN0_216, A6 MGTPTXN2_216, A8 MGTPRXN0_216, A10 MGTPRXN2_216, B4 MGTPTXP0_216, B6 MGTPTXP2_216, B8 MGTPRXP0_216, B10 MGTPRXP2_216, C5 MGTPTXN1_216, C7 MGTPTXN3_216, C9 MGTPRXN3_216, C11 MGTPRXN1_216, D5 MGTPTXP1_216, D7 MGTPTXP3_216, D9 MGTPRXP3_216, D11 MGTPRXP1_216, E6 MGTREFCLK0N_216, E10 MGTREFCLK1N_216, F6 MGTREFCLK0P_216, F8 MGTRREF_216, F10 MGTREFCLK1P_216
part I pins: A2 GND, A3 GND, A5 GND, A7 GND, A9 GND, A11 GND, A12 GND, A22 GND, AA2 GND, AA9 NC, AA10 NC, AA11 NC, AA12 GND, AA13 NC, AA14 NC, AA15 NC, AA16 NC, AA22 GND, AB9 GND, AB10 NC, AB11 NC, AB12 NC, AB13 NC, AB15 NC, AB16 NC, AB17 NC, AB19 GND, B3 GND, B5 MGTAVTT, B7 MGTAVTT, B9 MGTAVTT, B11 MGTAVTT, B12 GND, B19 GND, C3 GND, C4 MGTAVTT, C6 GND, C8 MGTAVTT, C10 GND, C12 GND, C16 GND, D3 GND, D4 GND, D6 MGTAVCC, D8 GND, D10 MGTAVCC, D12 GND, D13 GND, E4 GND, E5 GND, E7 GND, E8 MGTAVCC, E9 GND, E11 GND, E20 GND, F5 GND, F7 MGTAVCC, F9 MGTAVCC, F11 GND, F17 GND, G5 GND, G6 GND, G7 GND, G8 GND, G9 GND, G10 GND, G12 GND, G14 GND, H1 GND, H7 GND, H8 VCCINT, H9 GND, H10 VCCINT, H11 GND, H12 VCCAUX, H21 GND, J7 VCCINT, J8 GND, J9 VCCINT, J10 GND, J11 VCCBRAM, J12 GND, J18 GND, K5 GND, K7 GND, K8 VCCINT, K11 GND, K12 VCCAUX, K15 GND, L2 GND, L7 VCCINT, L8 GND, L11 VCCBRAM, L22 GND, M7 GND, M8 VCCINT, M11 GND, M12 VCCAUX, M19 GND, N6 GND, N7 VCCINT, N8 GND, N11 VCCBRAM, N16 GND, P3 GND, P7 GND, P8 VCCINT, P9 GND, P10 VCCINT, P11 GND, P12 VCCAUX, P13 GND, R7 VCCINT, R8 GND, R9 VCCINT, R10 GND, R11 VCCAUX, R12 GND, R20 GND, T7 GND, T8 VCCINT, T9 GND, T10 VCCINT, T11 GND, T14 NC, T15 NC, T16 NC, T17 GND, U4 GND, U14 GND, U15 NC, U16 NC, V1 GND, V10 NC, V11 GND, V13 NC, V14 NC, V15 NC, V21 GND, W8 GND, W10 NC, W11 NC, W12 NC, W14 NC, W15 NC, W16 NC, W18 GND, Y5 GND, Y11 NC, Y12 NC, Y13 NC, Y14 NC, Y15 GND, Y16 NC, Y17 NC

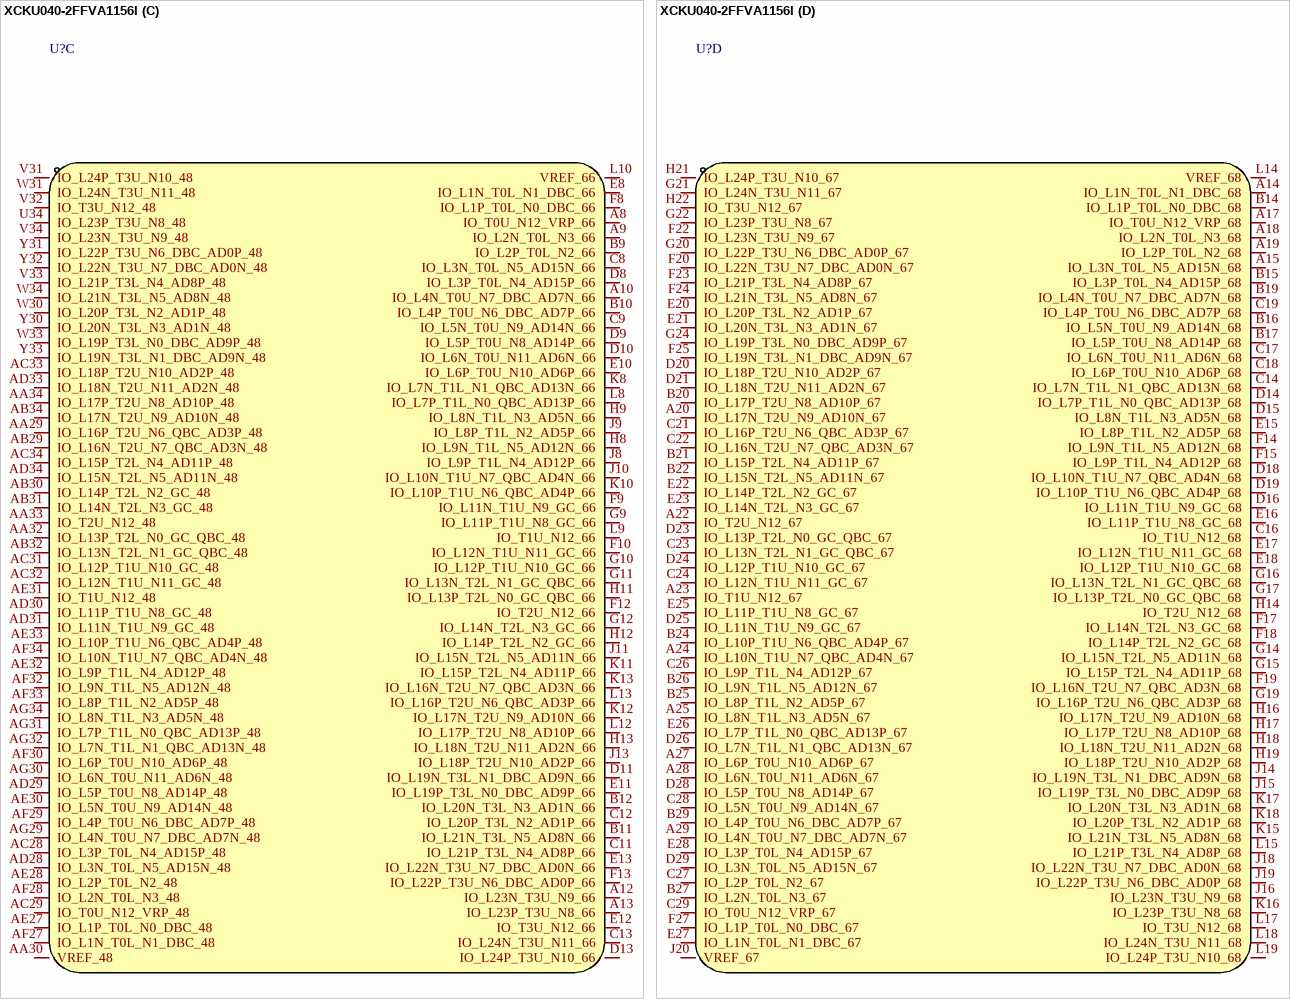
[diagram p11: symbol XCKU040-2FFVA1156I]

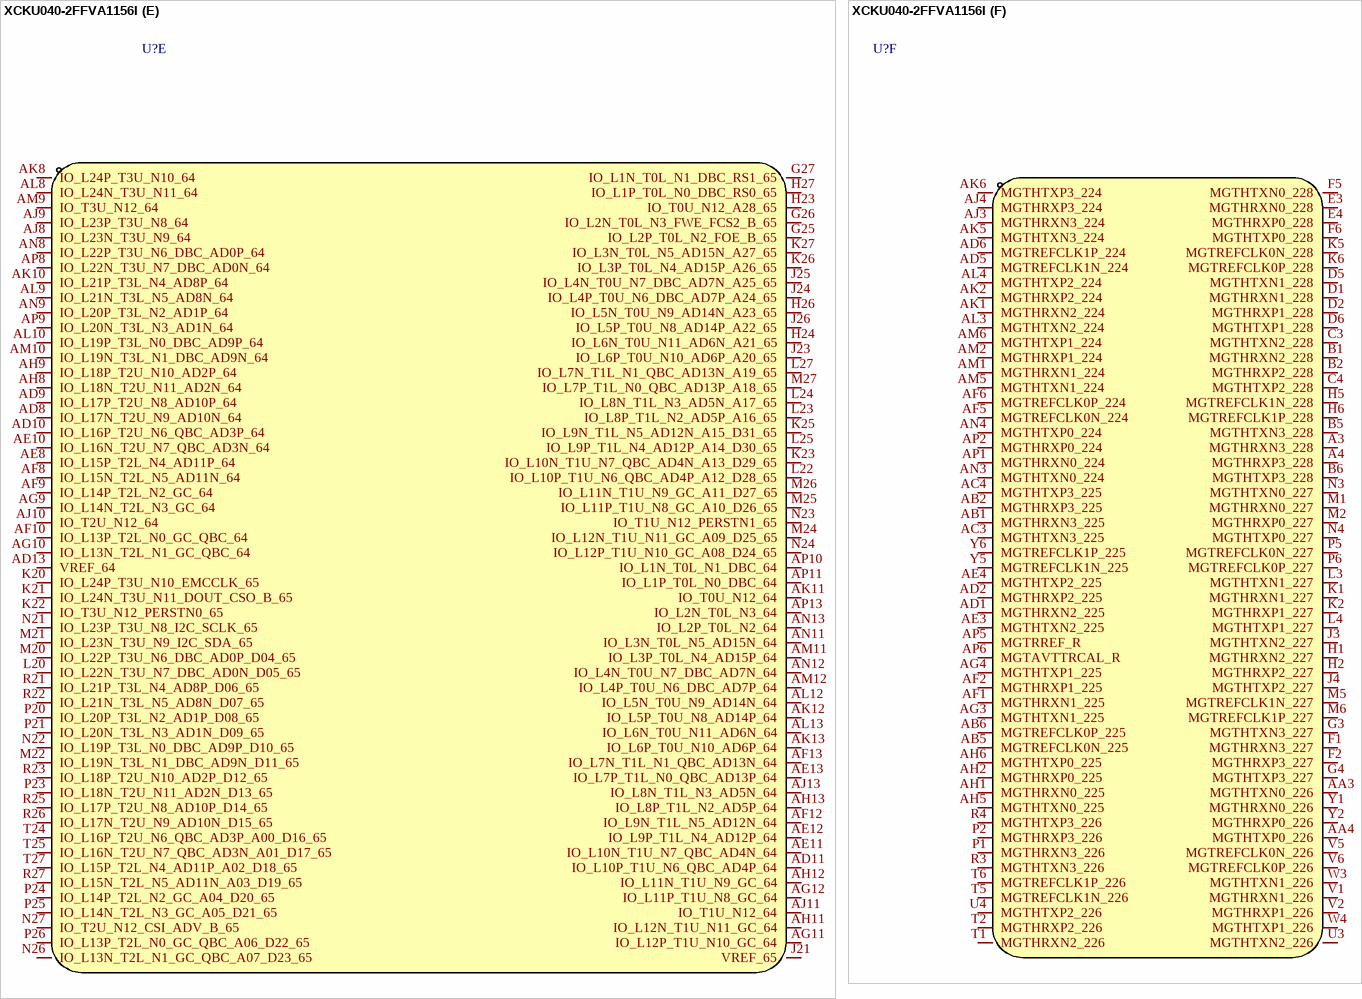
[diagram p12: symbol XCKU040-2FFVA1156I]

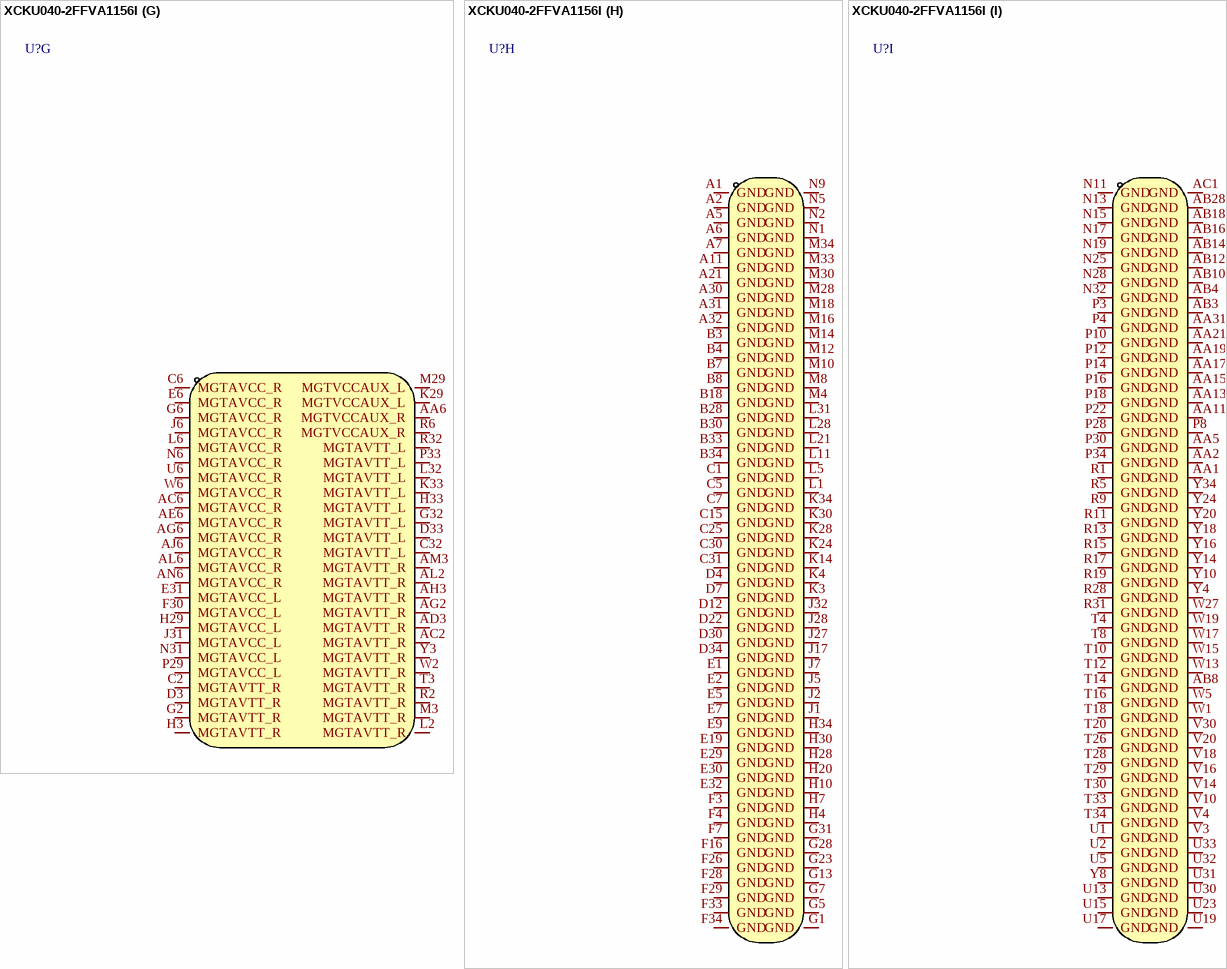
[diagram p13: symbol XCKU040-2FFVA1156I]

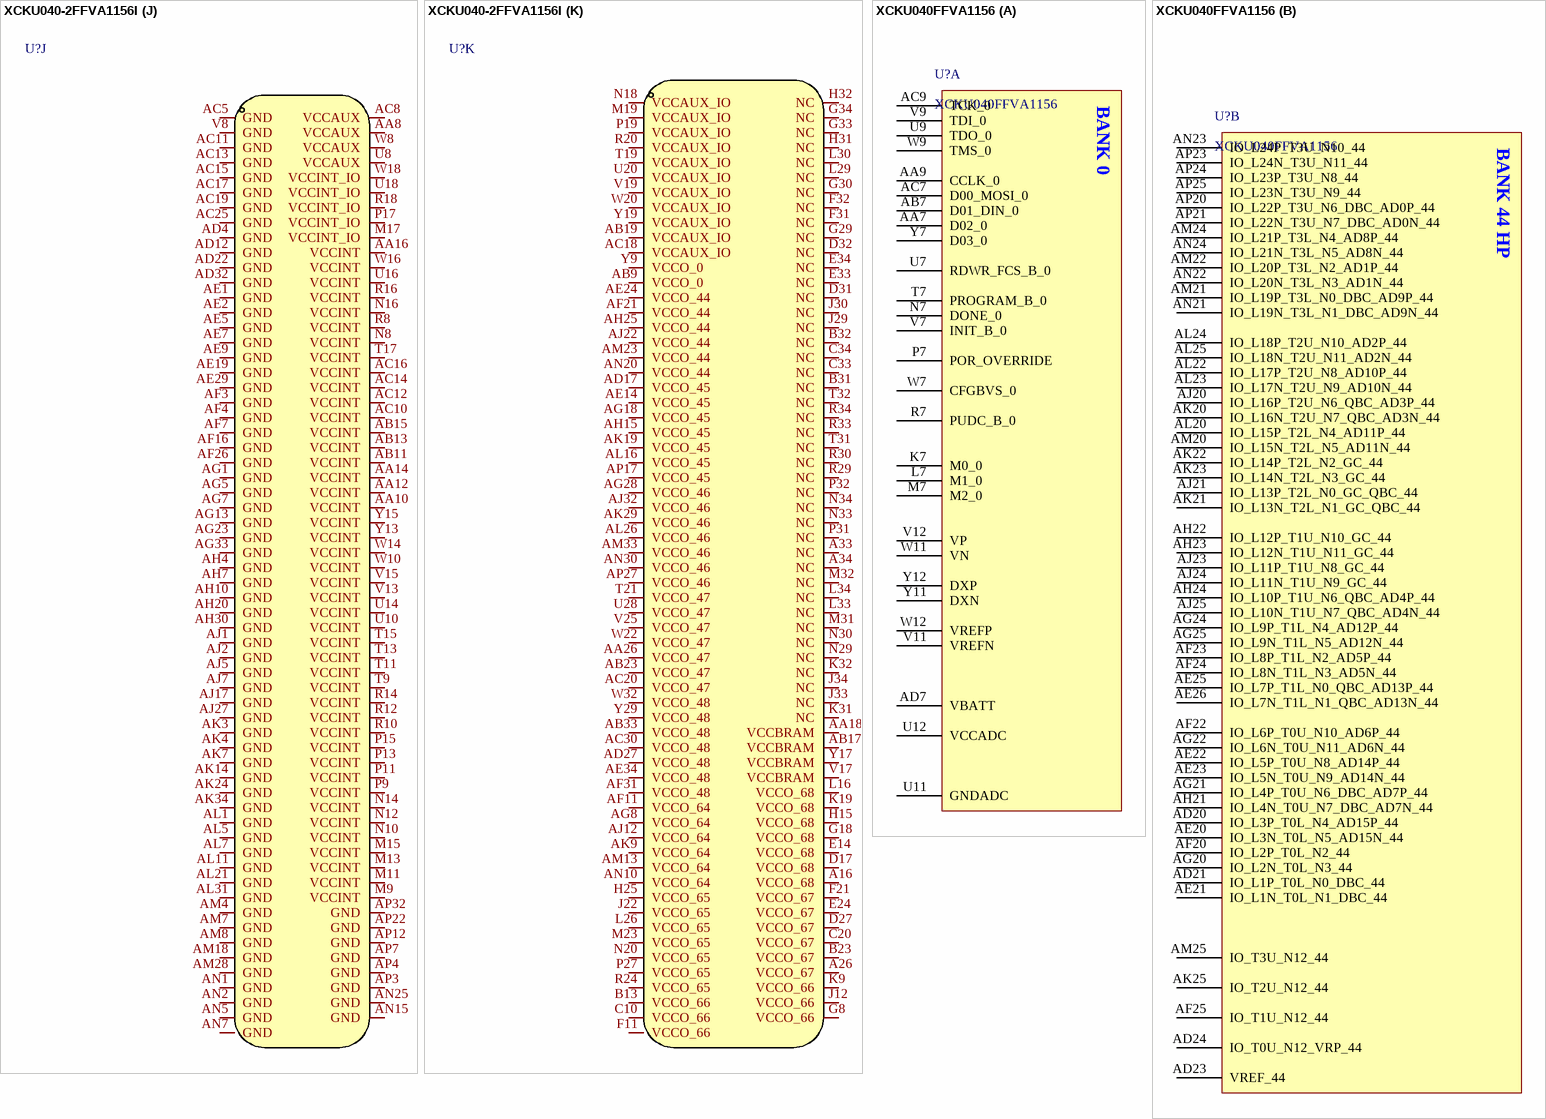
[diagram p14: symbols XCKU040-2FFVA1156I to XCKU040FFVA1156]